# Altium schematic symbol library connector.SchLib: 103 symbols
Pins are listed as number, name and electrical type; pins without a type are passive.

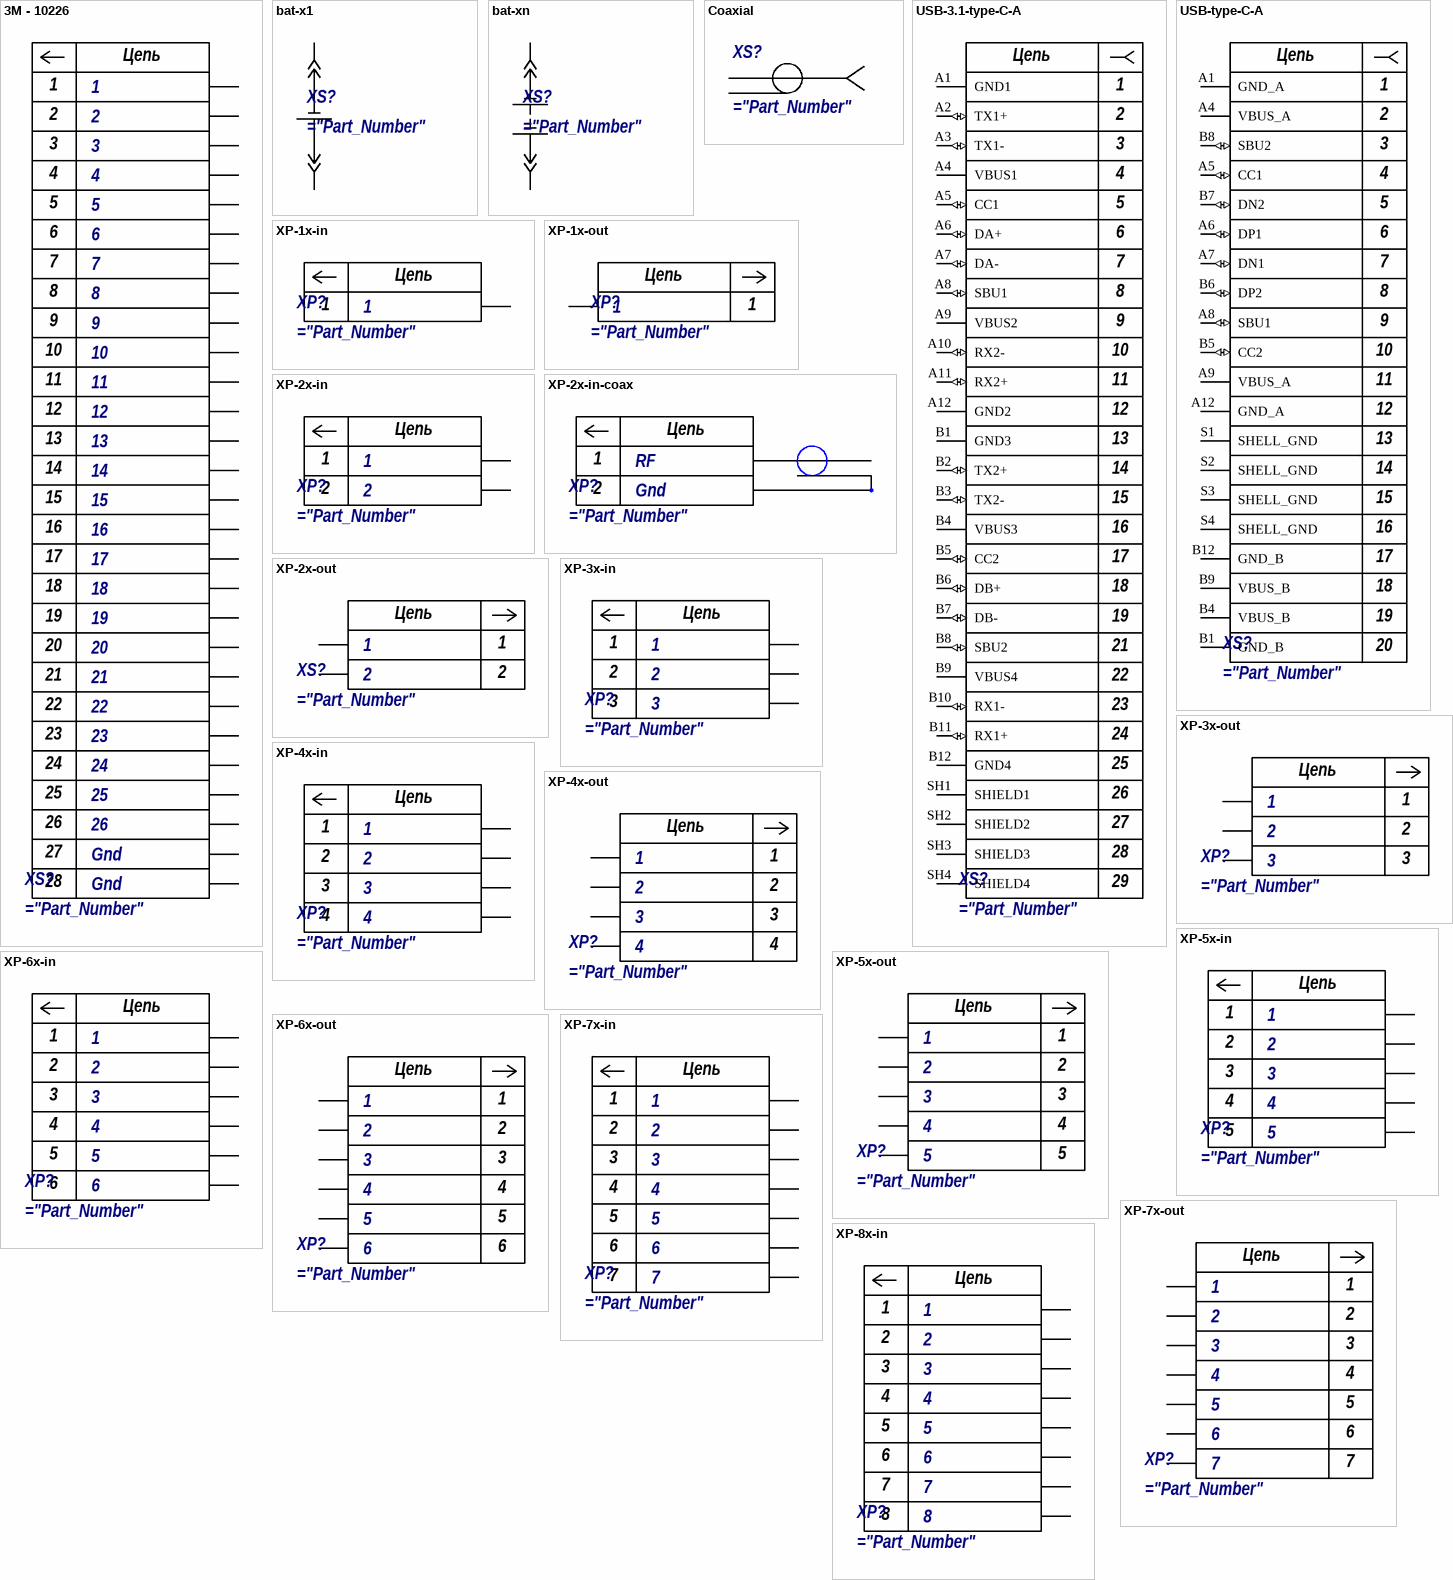
[diagram p0: symbols 3M - 10226 to XP-8x-in]

## 3M - 10226
designator XS?
="Description"; Port 1: 1; Port 2: 2; Port 3: 3; Port 4: 4; Port 5: 5; Port 6: 6; Port 7: 7; Port 8: 8; Port 9: 9; Port 10: 10; Port 11: 11; Port 12: 12; Port 13: 13; Port 14: 14; Port 15: 15; Port 16: 16; Port 17: 17; Port 18: 18; Port 19: 19; Port 20: 20; Port 21: 21; Port 22: 22; Port 23: 23; Port 24: 24; Port 25: 25; Port 26: 26; Port 27: Gnd; Port 28: Gnd
signal-integrity model Model Name (Model Description)
pins: 1, 2, 3, 4, 5, 6, 7, 8, 9, 10, 11, 12, 13, 14, 15, 16, 17, 18, 19, 20, 21, 22, 23, 24, 25, 26, MH1, MH2
text: Цепь; 27; 28

## bat-x1
designator XS?
="Description"; Port 1: 1
pins: 1, 2

## bat-xn
designator XS?
="Description"; Port 1: 1
pins: 1, 2

## Coaxial
designator XS?
="Description"; Rule: UNIONINDEX=0|RULEKIND=SMDNeckDown|NETSCOPE=AnyNet|LAYERKIND=SameLayer|NAME=Schematic SMD Neck-Down Constraint|PERCENT=100.000|UNIT=Metric; Rule: UNIONINDEX=0|RULEKIND=PolygonConnect|NETSCOPE=AnyNet|LAYERKIND=SameLayer|NAME=Schematic Polygon Connect Style|CONNECTSTYLE=Direct|RELIEFCONDUCTORWIDTH=10mil|RELIEFENTRIES=4|POLYGONRELIEFANGLE=45 Angle|AIRGAPWIDTH=10mil|UNIT=Metric
pins: 1, 2

## USB-3.1-type-C-A
designator XS?
="Description"
pins: A1 GND1 (power), A2 TX1+ (io), A3 TX1- (io), A4 VBUS1 (power), A5 CC1 (io), A6 DA+ (io), A7 DA- (io), A8 SBU1 (io), A9 VBUS2 (power), A10 RX2- (io), A11 RX2+ (io), A12 GND2 (power), B1 GND3 (power), B2 TX2+ (io), B3 TX2- (io), B4 VBUS3 (power), B5 CC2 (io), B6 DB+ (io), B7 DB- (io), B8 SBU2 (io), B9 VBUS4 (power), B10 RX1- (io), B11 RX1+ (io), B12 GND4 (power), SH1 SHIELD1, SH2 SHIELD2, SH3 SHIELD3, SH4 SHIELD4
text: Цепь; 1; 2; 3; 4; 5; 6; 7; 8; 9; 10; 11; 12; 13; 14; 15; 16; 17; 18; 19; 21; 22; 23; 24; 25; 26; 27; 28; 29

## USB-type-C-A
designator XS?
="Description"
pins: A1 GND_A (power), A4 VBUS_A (power), A5 CC1 (io), A6 DP1 (io), A7 DN1 (io), A8 SBU1 (io), A9 VBUS_A (power), A12 GND_A (power), B1 GND_B (power), B4 VBUS_B (power), B5 CC2 (io), B6 DP2 (io), B7 DN2 (io), B8 SBU2 (io), B9 VBUS_B (power), B12 GND_B (power), S1 SHELL_GND (power), S2 SHELL_GND (power), S3 SHELL_GND (power), S4 SHELL_GND (power)
text: Цепь; 1; 2; 3; 4; 5; 6; 7; 8; 9; 10; 11; 12; 13; 14; 15; 16; 17; 18; 19; 20

## XP-1x-in
designator XP?
="Description"; Port 1: 1
pins: 1
text: Цепь

## XP-1x-out
designator XP?
="Description"; Port 1: 1
pins: 1
text: Цепь

## XP-2x-in
designator XP?
="Description"; Port 1: 1; Port 2: 2
pins: 1, 2
text: Цепь

## XP-2x-in-coax
designator XP?
="Description"; Port 1: RF; Port 2: Gnd
pins: 1 ="Port 1", 2 ="Port 2"
text: Цепь

## XP-2x-out
designator XS?
="Description"; Port 1: 1; Port 2: 2
pins: 1 ="Port 1", 2 ="Port 2"
text: Цепь

## XP-3x-in
designator XP?
="Description"; Port 1: 1; Port 2: 2; Port 3: 3
pins: 1, 2, 3
text: Цепь

## XP-3x-out
designator XP?
="Description"; Port 1: 1; Port 2: 2; Port 3: 3
pins: 1 ="Port 1", 2 ="Port 2", 3 ="Port 3"
text: Цепь

## XP-4x-in
designator XP?
="Description"; Port 1: 1; Port 2: 2; Port 3: 3; Port 4: 4
pins: 1, 2, 3, 4
text: Цепь

## XP-4x-out
designator XP?
="Description"; Port 1: 1; Port 2: 2; Port 3: 3; Port 4: 4
pins: 1 ="Port 1", 2 ="Port 2", 3 ="Port 3", 4 ="Port 4"
text: Цепь

## XP-5x-in
designator XP?
="Description"; Port 1: 1; Port 2: 2; Port 3: 3; Port 4: 4; Port 5: 5
pins: 1, 2, 3, 4, 5
text: Цепь

## XP-5x-out
designator XP?
="Description"; Port 1: 1; Port 2: 2; Port 3: 3; Port 4: 4; Port 5: 5
pins: 1, 2, 3, 4, 5
text: Цепь

## XP-6x-in
designator XP?
="Description"; Port 1: 1; Port 2: 2; Port 3: 3; Port 4: 4; Port 5: 5; Port 6: 6
pins: 1, 2, 3, 4, 5, 6
text: Цепь

## XP-6x-out
designator XP?
="Description"; Port 1: 1; Port 2: 2; Port 3: 3; Port 4: 4; Port 5: 5; Port 6: 6
pins: 1, 2, 3, 4, 5, 6
text: Цепь

## XP-7x-in
designator XP?
="Description"; Port 1: 1; Port 2: 2; Port 3: 3; Port 4: 4; Port 5: 5; Port 6: 6; Port 7: 7
pins: 1, 2, 3, 4, 5, 6, 7
text: Цепь

## XP-7x-out
designator XP?
="Description"; Port 1: 1; Port 2: 2; Port 3: 3; Port 4: 4; Port 5: 5; Port 6: 6; Port 7: 7
pins: 1, 2, 3, 4, 5, 6, 7
text: Цепь

## XP-8x-in
designator XP?
="Description"; Port 1: 1; Port 2: 2; Port 3: 3; Port 4: 4; Port 5: 5; Port 6: 6; Port 7: 7; Port 8: 8
pins: 1, 2, 3, 4, 5, 6, 7, 8
text: Цепь

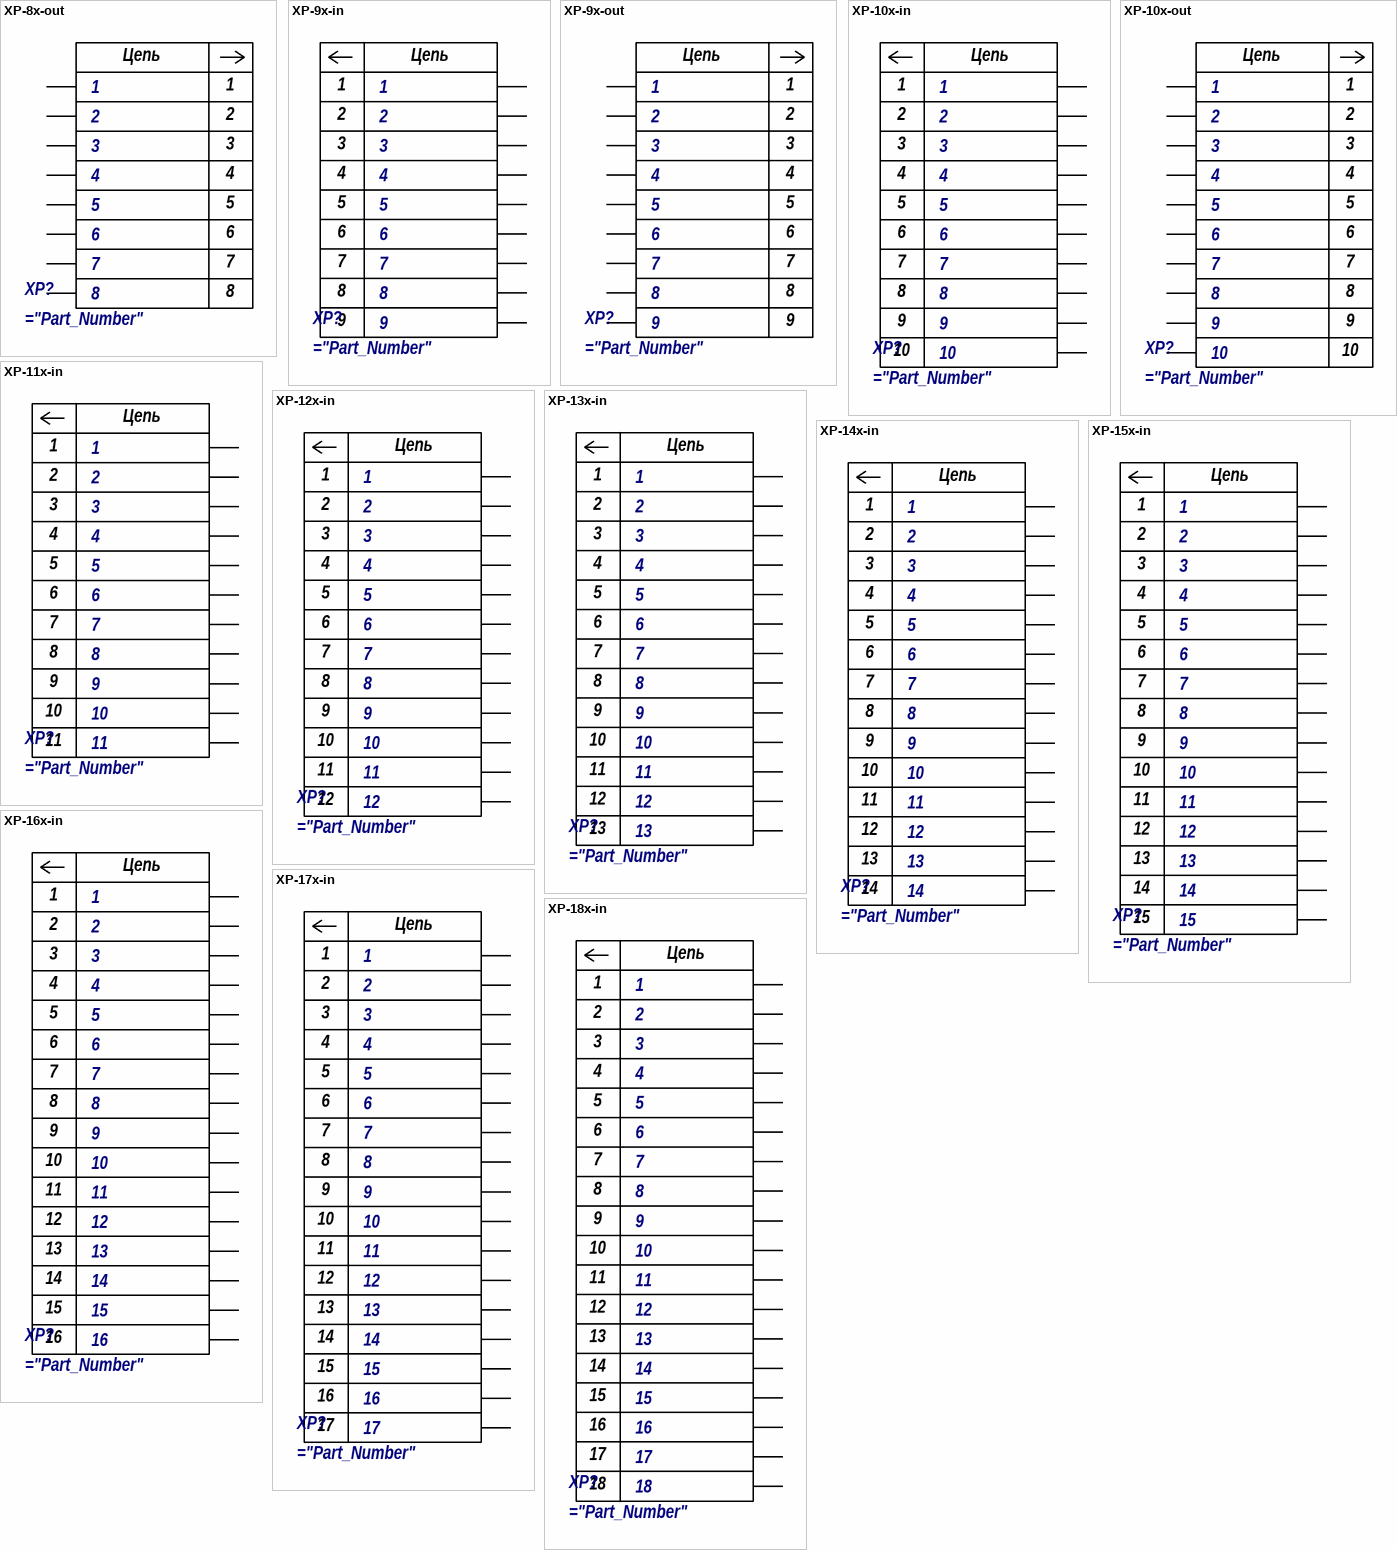
[diagram p1: symbols XP-8x-out to XP-18x-in]

## XP-8x-out
designator XP?
="Description"; Port 1: 1; Port 2: 2; Port 3: 3; Port 4: 4; Port 5: 5; Port 6: 6; Port 7: 7; Port 8: 8
pins: 1, 2, 3, 4, 5, 6, 7, 8
text: Цепь

## XP-9x-in
designator XP?
="Description"; Port 1: 1; Port 2: 2; Port 3: 3; Port 4: 4; Port 5: 5; Port 6: 6; Port 7: 7; Port 8: 8; Port 9: 9
pins: 1, 2, 3, 4, 5, 6, 7, 8, 9
text: Цепь

## XP-9x-out
designator XP?
="Description"; Port 1: 1; Port 2: 2; Port 3: 3; Port 4: 4; Port 5: 5; Port 6: 6; Port 7: 7; Port 8: 8; Port 9: 9
pins: 1, 2, 3, 4, 5, 6, 7, 8, 9
text: Цепь

## XP-10x-in
designator XP?
="Description"; Port 1: 1; Port 2: 2; Port 3: 3; Port 4: 4; Port 5: 5; Port 6: 6; Port 7: 7; Port 8: 8; Port 9: 9; Port 10: 10
pins: 1, 2, 3, 4, 5, 6, 7, 8, 9, 10
text: Цепь

## XP-10x-out
designator XP?
="Description"; Port 1: 1; Port 2: 2; Port 3: 3; Port 4: 4; Port 5: 5; Port 6: 6; Port 7: 7; Port 8: 8; Port 9: 9; Port 10: 10
pins: 1, 2, 3, 4, 5, 6, 7, 8, 9, 10
text: Цепь

## XP-11x-in
designator XP?
="Description"; Port 1: 1; Port 2: 2; Port 3: 3; Port 4: 4; Port 5: 5; Port 6: 6; Port 7: 7; Port 8: 8; Port 9: 9; Port 10: 10; Port 11: 11
pins: 1, 2, 3, 4, 5, 6, 7, 8, 9, 10, 11
text: Цепь

## XP-12x-in
designator XP?
="Description"; Port 1: 1; Port 2: 2; Port 3: 3; Port 4: 4; Port 5: 5; Port 6: 6; Port 7: 7; Port 8: 8; Port 9: 9; Port 10: 10; Port 11: 11; Port 12: 12
pins: 1, 2, 3, 4, 5, 6, 7, 8, 9, 10, 11, 12
text: Цепь

## XP-13x-in
designator XP?
="Description"; Port 1: 1; Port 2: 2; Port 3: 3; Port 4: 4; Port 5: 5; Port 6: 6; Port 7: 7; Port 8: 8; Port 9: 9; Port 10: 10; Port 11: 11; Port 12: 12; Port 13: 13
pins: 1, 2, 3, 4, 5, 6, 7, 8, 9, 10, 11, 12, 13
text: Цепь

## XP-14x-in
designator XP?
="Description"; Port 1: 1; Port 2: 2; Port 3: 3; Port 4: 4; Port 5: 5; Port 6: 6; Port 7: 7; Port 8: 8; Port 9: 9; Port 10: 10; Port 11: 11; Port 12: 12; Port 13: 13; Port 14: 14
pins: 1, 2, 3, 4, 5, 6, 7, 8, 9, 10, 11, 12, 13, 14
text: Цепь

## XP-15x-in
designator XP?
="Description"; Port 1: 1; Port 2: 2; Port 3: 3; Port 4: 4; Port 5: 5; Port 6: 6; Port 7: 7; Port 8: 8; Port 9: 9; Port 10: 10; Port 11: 11; Port 12: 12; Port 13: 13; Port 14: 14; Port 15: 15
pins: 1, 2, 3, 4, 5, 6, 7, 8, 9, 10, 11, 12, 13, 14, 15
text: Цепь

## XP-16x-in
designator XP?
="Description"; Port 1: 1; Port 2: 2; Port 3: 3; Port 4: 4; Port 5: 5; Port 6: 6; Port 7: 7; Port 8: 8; Port 9: 9; Port 10: 10; Port 11: 11; Port 12: 12; Port 13: 13; Port 14: 14; Port 15: 15; Port 16: 16
pins: 1, 2, 3, 4, 5, 6, 7, 8, 9, 10, 11, 12, 13, 14, 15, 16
text: Цепь

## XP-17x-in
designator XP?
="Description"; Port 1: 1; Port 2: 2; Port 3: 3; Port 4: 4; Port 5: 5; Port 6: 6; Port 7: 7; Port 8: 8; Port 9: 9; Port 10: 10; Port 11: 11; Port 12: 12; Port 13: 13; Port 14: 14; Port 15: 15; Port 16: 16; Port 17: 17
pins: 1, 2, 3, 4, 5, 6, 7, 8, 9, 10, 11, 12, 13, 14, 15, 16, 17
text: Цепь

## XP-18x-in
designator XP?
="Description"; Port 1: 1; Port 2: 2; Port 3: 3; Port 4: 4; Port 5: 5; Port 6: 6; Port 7: 7; Port 8: 8; Port 9: 9; Port 10: 10; Port 11: 11; Port 12: 12; Port 13: 13; Port 14: 14; Port 15: 15; Port 16: 16; Port 17: 17; Port 18: 18
pins: 1, 2, 3, 4, 5, 6, 7, 8, 9, 10, 11, 12, 13, 14, 15, 16, 17, 18
text: Цепь

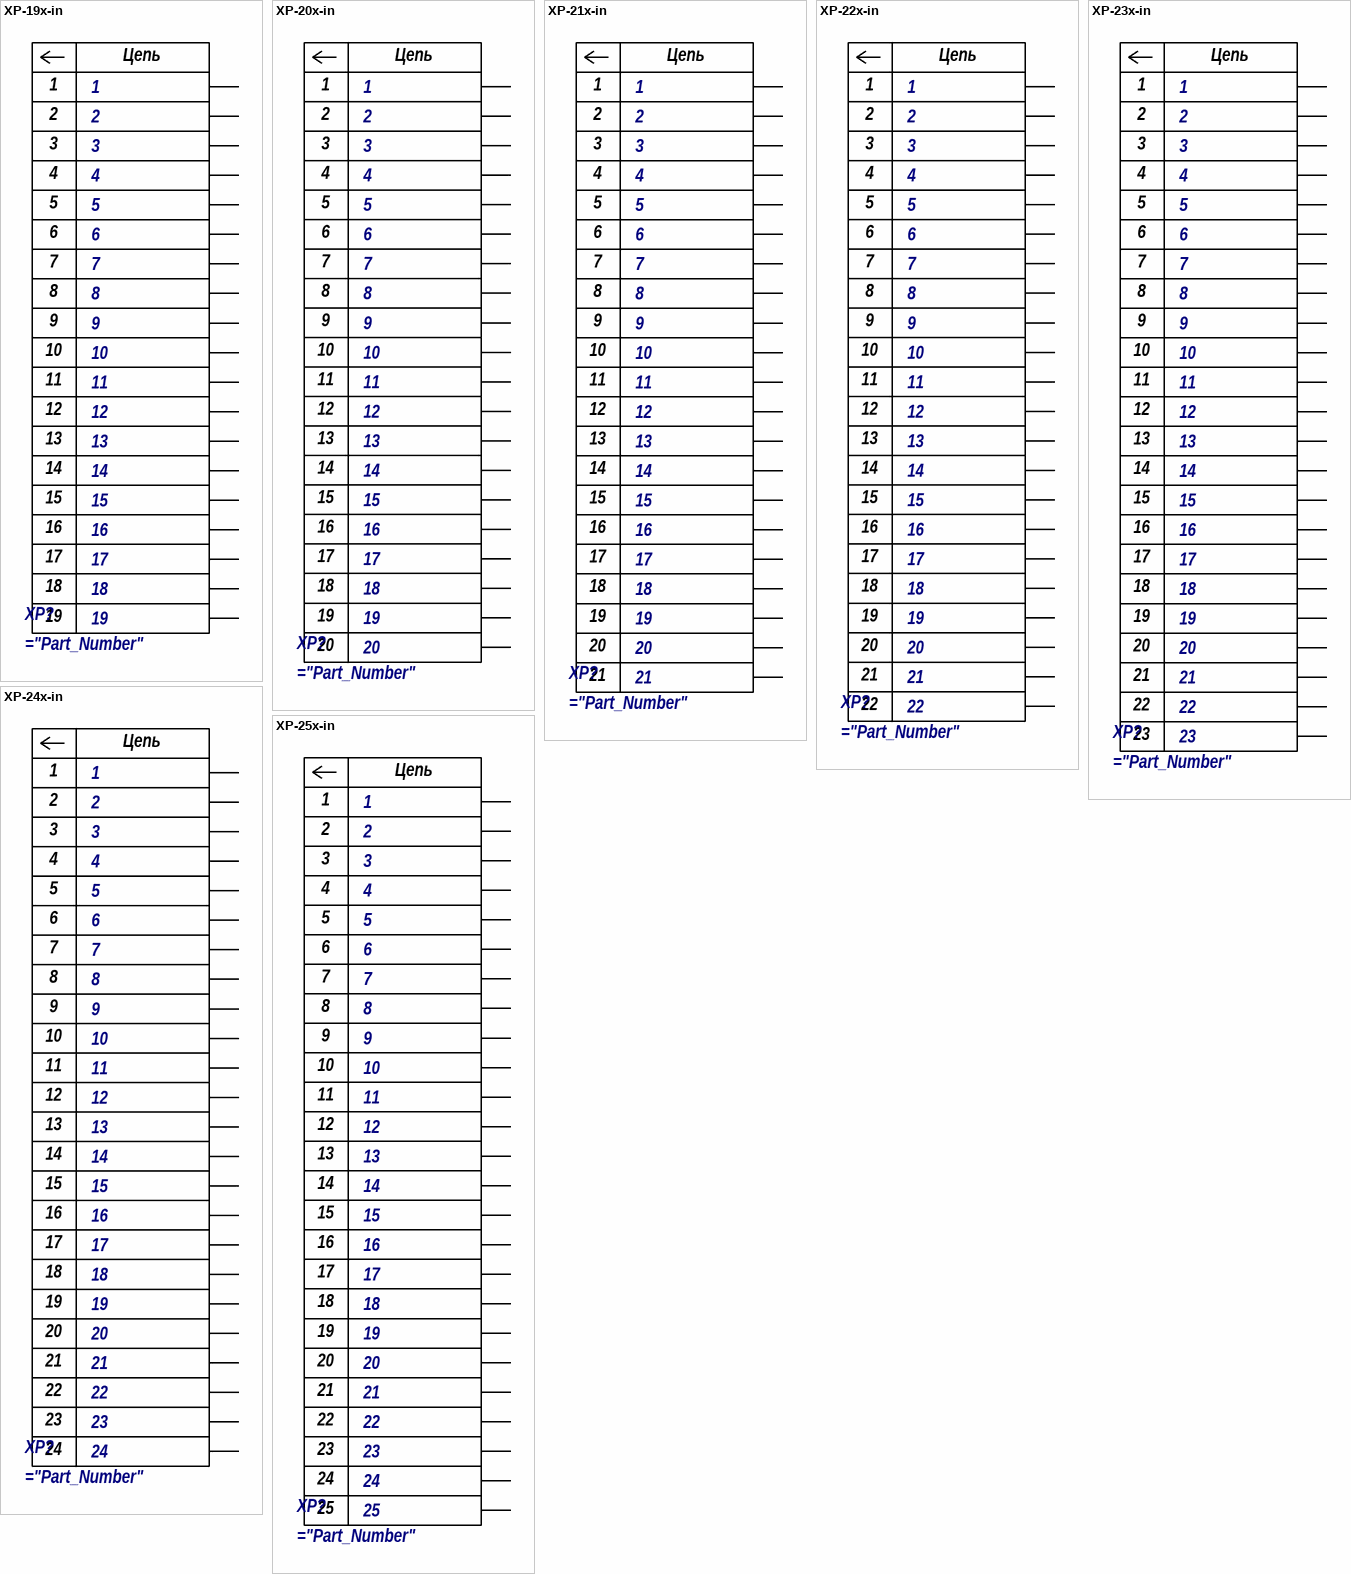
[diagram p2: symbols XP-19x-in to XP-25x-in]

## XP-19x-in
designator XP?
="Description"; Port 1: 1; Port 2: 2; Port 3: 3; Port 4: 4; Port 5: 5; Port 6: 6; Port 7: 7; Port 8: 8; Port 9: 9; Port 10: 10; Port 11: 11; Port 12: 12; Port 13: 13; Port 14: 14; Port 15: 15; Port 16: 16; Port 17: 17; Port 18: 18; Port 19: 19
pins: 1, 2, 3, 4, 5, 6, 7, 8, 9, 10, 11, 12, 13, 14, 15, 16, 17, 18, 19
text: Цепь

## XP-20x-in
designator XP?
="Description"; Port 1: 1; Port 2: 2; Port 3: 3; Port 4: 4; Port 5: 5; Port 6: 6; Port 7: 7; Port 8: 8; Port 9: 9; Port 10: 10; Port 11: 11; Port 12: 12; Port 13: 13; Port 14: 14; Port 15: 15; Port 16: 16; Port 17: 17; Port 18: 18; Port 19: 19; Port 20: 20
pins: 1, 2, 3, 4, 5, 6, 7, 8, 9, 10, 11, 12, 13, 14, 15, 16, 17, 18, 19, 20
text: Цепь

## XP-21x-in
designator XP?
="Description"; Port 1: 1; Port 2: 2; Port 3: 3; Port 4: 4; Port 5: 5; Port 6: 6; Port 7: 7; Port 8: 8; Port 9: 9; Port 10: 10; Port 11: 11; Port 12: 12; Port 13: 13; Port 14: 14; Port 15: 15; Port 16: 16; Port 17: 17; Port 18: 18; Port 19: 19; Port 20: 20; Port 21: 21
pins: 1, 2, 3, 4, 5, 6, 7, 8, 9, 10, 11, 12, 13, 14, 15, 16, 17, 18, 19, 20, 21
text: Цепь

## XP-22x-in
designator XP?
="Description"; Port 1: 1; Port 2: 2; Port 3: 3; Port 4: 4; Port 5: 5; Port 6: 6; Port 7: 7; Port 8: 8; Port 9: 9; Port 10: 10; Port 11: 11; Port 12: 12; Port 13: 13; Port 14: 14; Port 15: 15; Port 16: 16; Port 17: 17; Port 18: 18; Port 19: 19; Port 20: 20; Port 21: 21; Port 22: 22
pins: 1, 2, 3, 4, 5, 6, 7, 8, 9, 10, 11, 12, 13, 14, 15, 16, 17, 18, 19, 20, 21, 22
text: Цепь

## XP-23x-in
designator XP?
="Description"; Port 1: 1; Port 2: 2; Port 3: 3; Port 4: 4; Port 5: 5; Port 6: 6; Port 7: 7; Port 8: 8; Port 9: 9; Port 10: 10; Port 11: 11; Port 12: 12; Port 13: 13; Port 14: 14; Port 15: 15; Port 16: 16; Port 17: 17; Port 18: 18; Port 19: 19; Port 20: 20; Port 21: 21; Port 22: 22; Port 23: 23
pins: 1, 2, 3, 4, 5, 6, 7, 8, 9, 10, 11, 12, 13, 14, 15, 16, 17, 18, 19, 20, 21, 22, 23
text: Цепь

## XP-24x-in
designator XP?
="Description"; Port 1: 1; Port 2: 2; Port 3: 3; Port 4: 4; Port 5: 5; Port 6: 6; Port 7: 7; Port 8: 8; Port 9: 9; Port 10: 10; Port 11: 11; Port 12: 12; Port 13: 13; Port 14: 14; Port 15: 15; Port 16: 16; Port 17: 17; Port 18: 18; Port 19: 19; Port 20: 20; Port 21: 21; Port 22: 22; Port 23: 23; Port 24: 24
pins: 1, 2, 3, 4, 5, 6, 7, 8, 9, 10, 11, 12, 13, 14, 15, 16, 17, 18, 19, 20, 21, 22, 23, 24
text: Цепь

## XP-25x-in
designator XP?
="Description"; Port 1: 1; Port 2: 2; Port 3: 3; Port 4: 4; Port 5: 5; Port 6: 6; Port 7: 7; Port 8: 8; Port 9: 9; Port 10: 10; Port 11: 11; Port 12: 12; Port 13: 13; Port 14: 14; Port 15: 15; Port 16: 16; Port 17: 17; Port 18: 18; Port 19: 19; Port 20: 20; Port 21: 21; Port 22: 22; Port 23: 23; Port 24: 24; Port 25: 25
pins: 1, 2, 3, 4, 5, 6, 7, 8, 9, 10, 11, 12, 13, 14, 15, 16, 17, 18, 19, 20, 21, 22, 23, 24, 25
text: Цепь

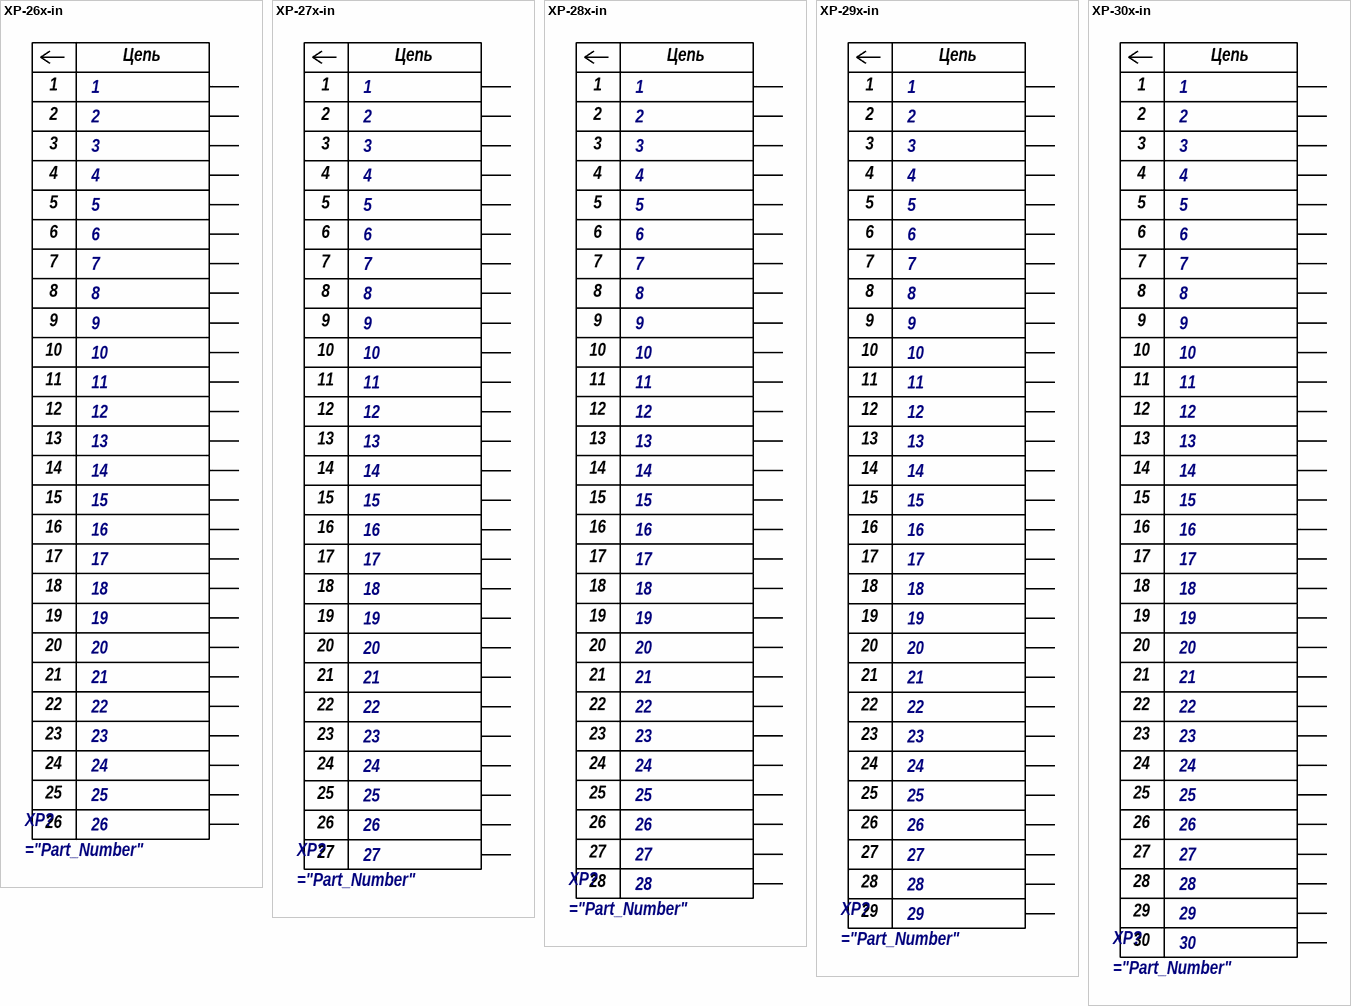
[diagram p3: symbols XP-26x-in to XP-30x-in]

## XP-26x-in
designator XP?
="Description"; Port 1: 1; Port 2: 2; Port 3: 3; Port 4: 4; Port 5: 5; Port 6: 6; Port 7: 7; Port 8: 8; Port 9: 9; Port 10: 10; Port 11: 11; Port 12: 12; Port 13: 13; Port 14: 14; Port 15: 15; Port 16: 16; Port 17: 17; Port 18: 18; Port 19: 19; Port 20: 20; Port 21: 21; Port 22: 22; Port 23: 23; Port 24: 24; Port 25: 25; Port 26: 26
pins: 1, 2, 3, 4, 5, 6, 7, 8, 9, 10, 11, 12, 13, 14, 15, 16, 17, 18, 19, 20, 21, 22, 23, 24, 25, 26
text: Цепь

## XP-27x-in
designator XP?
="Description"; Port 1: 1; Port 2: 2; Port 3: 3; Port 4: 4; Port 5: 5; Port 6: 6; Port 7: 7; Port 8: 8; Port 9: 9; Port 10: 10; Port 11: 11; Port 12: 12; Port 13: 13; Port 14: 14; Port 15: 15; Port 16: 16; Port 17: 17; Port 18: 18; Port 19: 19; Port 20: 20; Port 21: 21; Port 22: 22; Port 23: 23; Port 24: 24; Port 25: 25; Port 26: 26; Port 27: 27
pins: 1, 2, 3, 4, 5, 6, 7, 8, 9, 10, 11, 12, 13, 14, 15, 16, 17, 18, 19, 20, 21, 22, 23, 24, 25, 26, 27
text: Цепь

## XP-28x-in
designator XP?
="Description"; Port 1: 1; Port 2: 2; Port 3: 3; Port 4: 4; Port 5: 5; Port 6: 6; Port 7: 7; Port 8: 8; Port 9: 9; Port 10: 10; Port 11: 11; Port 12: 12; Port 13: 13; Port 14: 14; Port 15: 15; Port 16: 16; Port 17: 17; Port 18: 18; Port 19: 19; Port 20: 20; Port 21: 21; Port 22: 22; Port 23: 23; Port 24: 24; Port 25: 25; Port 26: 26; Port 27: 27; Port 28: 28
pins: 1, 2, 3, 4, 5, 6, 7, 8, 9, 10, 11, 12, 13, 14, 15, 16, 17, 18, 19, 20, 21, 22, 23, 24, 25, 26, 27, 28
text: Цепь

## XP-29x-in
designator XP?
="Description"; Port 1: 1; Port 2: 2; Port 3: 3; Port 4: 4; Port 5: 5; Port 6: 6; Port 7: 7; Port 8: 8; Port 9: 9; Port 10: 10; Port 11: 11; Port 12: 12; Port 13: 13; Port 14: 14; Port 15: 15; Port 16: 16; Port 17: 17; Port 18: 18; Port 19: 19; Port 20: 20; Port 21: 21; Port 22: 22; Port 23: 23; Port 24: 24; Port 25: 25; Port 26: 26; Port 27: 27; Port 28: 28; Port 29: 29
pins: 1, 2, 3, 4, 5, 6, 7, 8, 9, 10, 11, 12, 13, 14, 15, 16, 17, 18, 19, 20, 21, 22, 23, 24, 25, 26, 27, 28, 29
text: Цепь

## XP-30x-in
designator XP?
="Description"; Port 1: 1; Port 2: 2; Port 3: 3; Port 4: 4; Port 5: 5; Port 6: 6; Port 7: 7; Port 8: 8; Port 9: 9; Port 10: 10; Port 11: 11; Port 12: 12; Port 13: 13; Port 14: 14; Port 15: 15; Port 16: 16; Port 17: 17; Port 18: 18; Port 19: 19; Port 20: 20; Port 21: 21; Port 22: 22; Port 23: 23; Port 24: 24; Port 25: 25; Port 26: 26; Port 27: 27; Port 28: 28; Port 29: 29; Port 30: 30
pins: 1, 2, 3, 4, 5, 6, 7, 8, 9, 10, 11, 12, 13, 14, 15, 16, 17, 18, 19, 20, 21, 22, 23, 24, 25, 26, 27, 28, 29, 30
text: Цепь

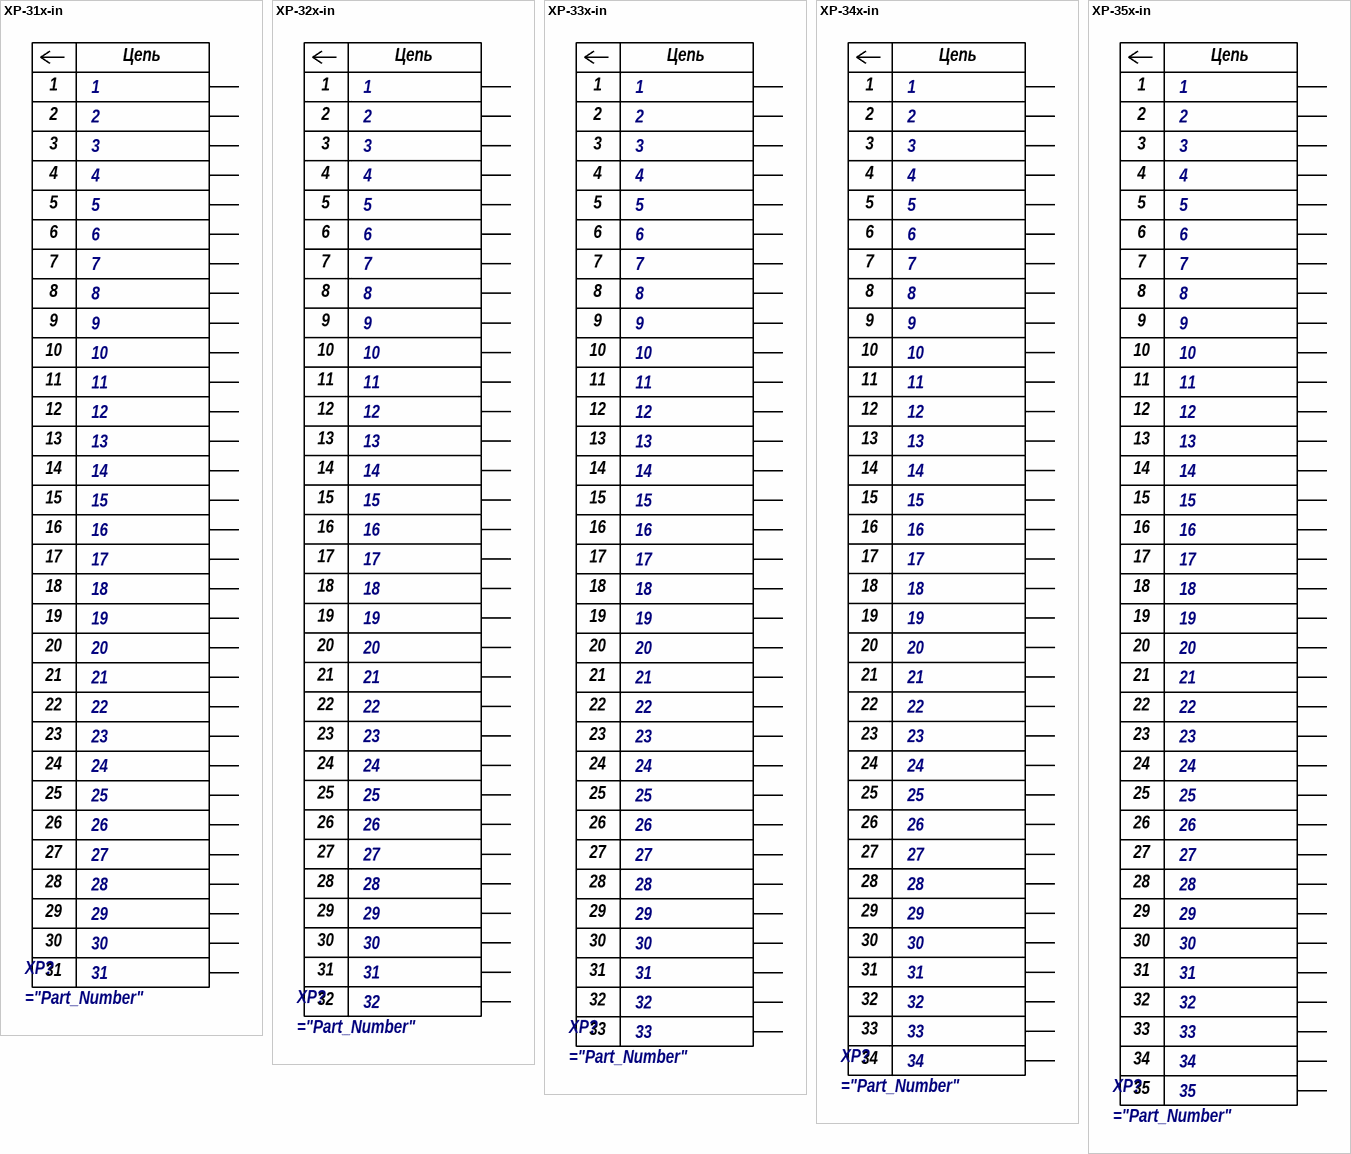
[diagram p4: symbols XP-31x-in to XP-35x-in]

## XP-31x-in
designator XP?
="Description"; Port 1: 1; Port 2: 2; Port 3: 3; Port 4: 4; Port 5: 5; Port 6: 6; Port 7: 7; Port 8: 8; Port 9: 9; Port 10: 10; Port 11: 11; Port 12: 12; Port 13: 13; Port 14: 14; Port 15: 15; Port 16: 16; Port 17: 17; Port 18: 18; Port 19: 19; Port 20: 20; Port 21: 21; Port 22: 22; Port 23: 23; Port 24: 24; Port 25: 25; Port 26: 26; Port 27: 27; Port 28: 28; Port 29: 29; Port 30: 30; Port 31: 31
pins: 1, 2, 3, 4, 5, 6, 7, 8, 9, 10, 11, 12, 13, 14, 15, 16, 17, 18, 19, 20, 21, 22, 23, 24, 25, 26, 27, 28, 29, 30, 31
text: Цепь

## XP-32x-in
designator XP?
="Description"; Port 1: 1; Port 2: 2; Port 3: 3; Port 4: 4; Port 5: 5; Port 6: 6; Port 7: 7; Port 8: 8; Port 9: 9; Port 10: 10; Port 11: 11; Port 12: 12; Port 13: 13; Port 14: 14; Port 15: 15; Port 16: 16; Port 17: 17; Port 18: 18; Port 19: 19; Port 20: 20; Port 21: 21; Port 22: 22; Port 23: 23; Port 24: 24; Port 25: 25; Port 26: 26; Port 27: 27; Port 28: 28; Port 29: 29; Port 30: 30; Port 31: 31; Port 32: 32
pins: 1, 2, 3, 4, 5, 6, 7, 8, 9, 10, 11, 12, 13, 14, 15, 16, 17, 18, 19, 20, 21, 22, 23, 24, 25, 26, 27, 28, 29, 30, 31, 32
text: Цепь

## XP-33x-in
designator XP?
="Description"; Port 1: 1; Port 2: 2; Port 3: 3; Port 4: 4; Port 5: 5; Port 6: 6; Port 7: 7; Port 8: 8; Port 9: 9; Port 10: 10; Port 11: 11; Port 12: 12; Port 13: 13; Port 14: 14; Port 15: 15; Port 16: 16; Port 17: 17; Port 18: 18; Port 19: 19; Port 20: 20; Port 21: 21; Port 22: 22; Port 23: 23; Port 24: 24; Port 25: 25; Port 26: 26; Port 27: 27; Port 28: 28; Port 29: 29; Port 30: 30; Port 31: 31; Port 32: 32; Port 33: 33
pins: 1, 2, 3, 4, 5, 6, 7, 8, 9, 10, 11, 12, 13, 14, 15, 16, 17, 18, 19, 20, 21, 22, 23, 24, 25, 26, 27, 28, 29, 30, 31, 32, 33
text: Цепь

## XP-34x-in
designator XP?
="Description"; Port 1: 1; Port 2: 2; Port 3: 3; Port 4: 4; Port 5: 5; Port 6: 6; Port 7: 7; Port 8: 8; Port 9: 9; Port 10: 10; Port 11: 11; Port 12: 12; Port 13: 13; Port 14: 14; Port 15: 15; Port 16: 16; Port 17: 17; Port 18: 18; Port 19: 19; Port 20: 20; Port 21: 21; Port 22: 22; Port 23: 23; Port 24: 24; Port 25: 25; Port 26: 26; Port 27: 27; Port 28: 28; Port 29: 29; Port 30: 30; Port 31: 31; Port 32: 32; Port 33: 33; Port 34: 34
pins: 1, 2, 3, 4, 5, 6, 7, 8, 9, 10, 11, 12, 13, 14, 15, 16, 17, 18, 19, 20, 21, 22, 23, 24, 25, 26, 27, 28, 29, 30, 31, 32, 33, 34
text: Цепь

## XP-35x-in
designator XP?
="Description"; Port 1: 1; Port 2: 2; Port 3: 3; Port 4: 4; Port 5: 5; Port 6: 6; Port 7: 7; Port 8: 8; Port 9: 9; Port 10: 10; Port 11: 11; Port 12: 12; Port 13: 13; Port 14: 14; Port 15: 15; Port 16: 16; Port 17: 17; Port 18: 18; Port 19: 19; Port 20: 20; Port 21: 21; Port 22: 22; Port 23: 23; Port 24: 24; Port 25: 25; Port 26: 26; Port 27: 27; Port 28: 28; Port 29: 29; Port 30: 30; Port 31: 31; Port 32: 32; Port 33: 33; Port 34: 34; Port 35: 35
pins: 1, 2, 3, 4, 5, 6, 7, 8, 9, 10, 11, 12, 13, 14, 15, 16, 17, 18, 19, 20, 21, 22, 23, 24, 25, 26, 27, 28, 29, 30, 31, 32, 33, 34, 35
text: Цепь

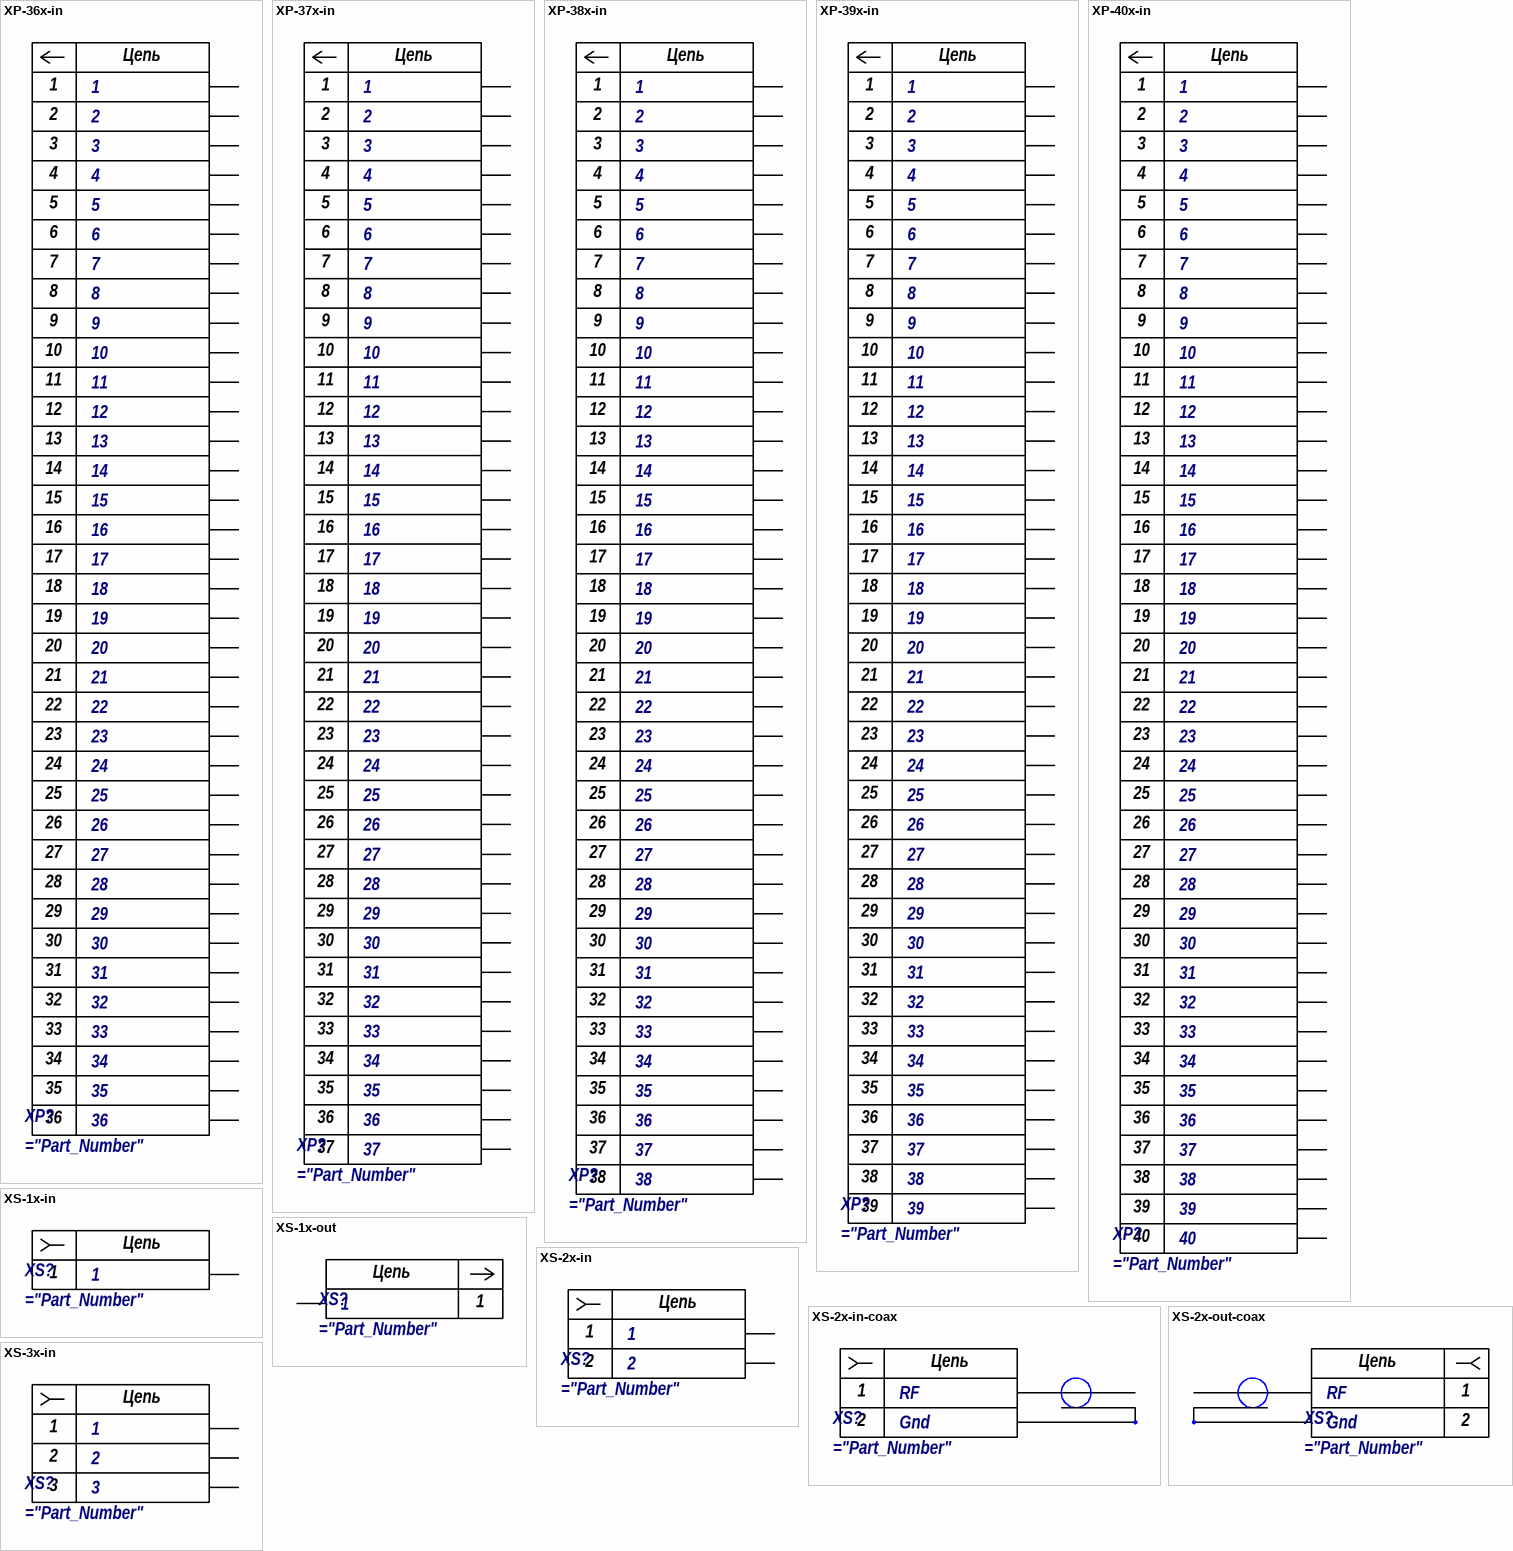
[diagram p5: symbols XP-36x-in to XS-3x-in]

## XP-36x-in
designator XP?
="Description"; Port 1: 1; Port 2: 2; Port 3: 3; Port 4: 4; Port 5: 5; Port 6: 6; Port 7: 7; Port 8: 8; Port 9: 9; Port 10: 10; Port 11: 11; Port 12: 12; Port 13: 13; Port 14: 14; Port 15: 15; Port 16: 16; Port 17: 17; Port 18: 18; Port 19: 19; Port 20: 20; Port 21: 21; Port 22: 22; Port 23: 23; Port 24: 24; Port 25: 25; Port 26: 26; Port 27: 27; Port 28: 28; Port 29: 29; Port 30: 30; Port 31: 31; Port 32: 32; Port 33: 33; Port 34: 34; Port 35: 35; Port 36: 36
pins: 1, 2, 3, 4, 5, 6, 7, 8, 9, 10, 11, 12, 13, 14, 15, 16, 17, 18, 19, 20, 21, 22, 23, 24, 25, 26, 27, 28, 29, 30, 31, 32, 33, 34, 35, 36
text: Цепь

## XP-37x-in
designator XP?
="Description"; Port 1: 1; Port 2: 2; Port 3: 3; Port 4: 4; Port 5: 5; Port 6: 6; Port 7: 7; Port 8: 8; Port 9: 9; Port 10: 10; Port 11: 11; Port 12: 12; Port 13: 13; Port 14: 14; Port 15: 15; Port 16: 16; Port 17: 17; Port 18: 18; Port 19: 19; Port 20: 20; Port 21: 21; Port 22: 22; Port 23: 23; Port 24: 24; Port 25: 25; Port 26: 26; Port 27: 27; Port 28: 28; Port 29: 29; Port 30: 30; Port 31: 31; Port 32: 32; Port 33: 33; Port 34: 34; Port 35: 35; Port 36: 36; Port 37: 37
pins: 1, 2, 3, 4, 5, 6, 7, 8, 9, 10, 11, 12, 13, 14, 15, 16, 17, 18, 19, 20, 21, 22, 23, 24, 25, 26, 27, 28, 29, 30, 31, 32, 33, 34, 35, 36, 37
text: Цепь

## XP-38x-in
designator XP?
="Description"; Port 1: 1; Port 2: 2; Port 3: 3; Port 4: 4; Port 5: 5; Port 6: 6; Port 7: 7; Port 8: 8; Port 9: 9; Port 10: 10; Port 11: 11; Port 12: 12; Port 13: 13; Port 14: 14; Port 15: 15; Port 16: 16; Port 17: 17; Port 18: 18; Port 19: 19; Port 20: 20; Port 21: 21; Port 22: 22; Port 23: 23; Port 24: 24; Port 25: 25; Port 26: 26; Port 27: 27; Port 28: 28; Port 29: 29; Port 30: 30; Port 31: 31; Port 32: 32; Port 33: 33; Port 34: 34; Port 35: 35; Port 36: 36; Port 37: 37; Port 38: 38
pins: 1, 2, 3, 4, 5, 6, 7, 8, 9, 10, 11, 12, 13, 14, 15, 16, 17, 18, 19, 20, 21, 22, 23, 24, 25, 26, 27, 28, 29, 30, 31, 32, 33, 34, 35, 36, 37, 38
text: Цепь

## XP-39x-in
designator XP?
="Description"; Port 1: 1; Port 2: 2; Port 3: 3; Port 4: 4; Port 5: 5; Port 6: 6; Port 7: 7; Port 8: 8; Port 9: 9; Port 10: 10; Port 11: 11; Port 12: 12; Port 13: 13; Port 14: 14; Port 15: 15; Port 16: 16; Port 17: 17; Port 18: 18; Port 19: 19; Port 20: 20; Port 21: 21; Port 22: 22; Port 23: 23; Port 24: 24; Port 25: 25; Port 26: 26; Port 27: 27; Port 28: 28; Port 29: 29; Port 30: 30; Port 31: 31; Port 32: 32; Port 33: 33; Port 34: 34; Port 35: 35; Port 36: 36; Port 37: 37; Port 38: 38; Port 39: 39
pins: 1, 2, 3, 4, 5, 6, 7, 8, 9, 10, 11, 12, 13, 14, 15, 16, 17, 18, 19, 20, 21, 22, 23, 24, 25, 26, 27, 28, 29, 30, 31, 32, 33, 34, 35, 36, 37, 38, 39
text: Цепь

## XP-40x-in
designator XP?
="Description"; Port 1: 1; Port 2: 2; Port 3: 3; Port 4: 4; Port 5: 5; Port 6: 6; Port 7: 7; Port 8: 8; Port 9: 9; Port 10: 10; Port 11: 11; Port 12: 12; Port 13: 13; Port 14: 14; Port 15: 15; Port 16: 16; Port 17: 17; Port 18: 18; Port 19: 19; Port 20: 20; Port 21: 21; Port 22: 22; Port 23: 23; Port 24: 24; Port 25: 25; Port 26: 26; Port 27: 27; Port 28: 28; Port 29: 29; Port 30: 30; Port 31: 31; Port 32: 32; Port 33: 33; Port 34: 34; Port 35: 35; Port 36: 36; Port 37: 37; Port 38: 38; Port 39: 39; Port 40: 40
pins: 1, 2, 3, 4, 5, 6, 7, 8, 9, 10, 11, 12, 13, 14, 15, 16, 17, 18, 19, 20, 21, 22, 23, 24, 25, 26, 27, 28, 29, 30, 31, 32, 33, 34, 35, 36, 37, 38, 39, 40
text: Цепь

## XS-1x-in
designator XS?
="Description"; Port 1: 1
pins: 1 ="Port 1"
text: Цепь

## XS-1x-out
designator XS?
="Description"; Port 1: 1
pins: 1
text: Цепь

## XS-2x-in
designator XS?
="Description"; Port 1: 1; Port 2: 2
pins: 1 ="Port 1", 2 ="Port 2"
text: Цепь

## XS-2x-in-coax
designator XS?
="Description"; Port 1: RF; Port 2: Gnd
pins: 1 ="Port 1", 2 ="Port 2"
text: Цепь

## XS-2x-out-coax
designator XS?
="Description"; Port 1: RF; Port 2: Gnd
pins: 1 ="Port 1", 2 ="Port 2"
text: Цепь

## XS-3x-in
designator XS?
="Description"; Port 1: 1; Port 2: 2; Port 3: 3
pins: 1 ="Port 1", 2 ="Port 2", 3 ="Port 3"
text: Цепь

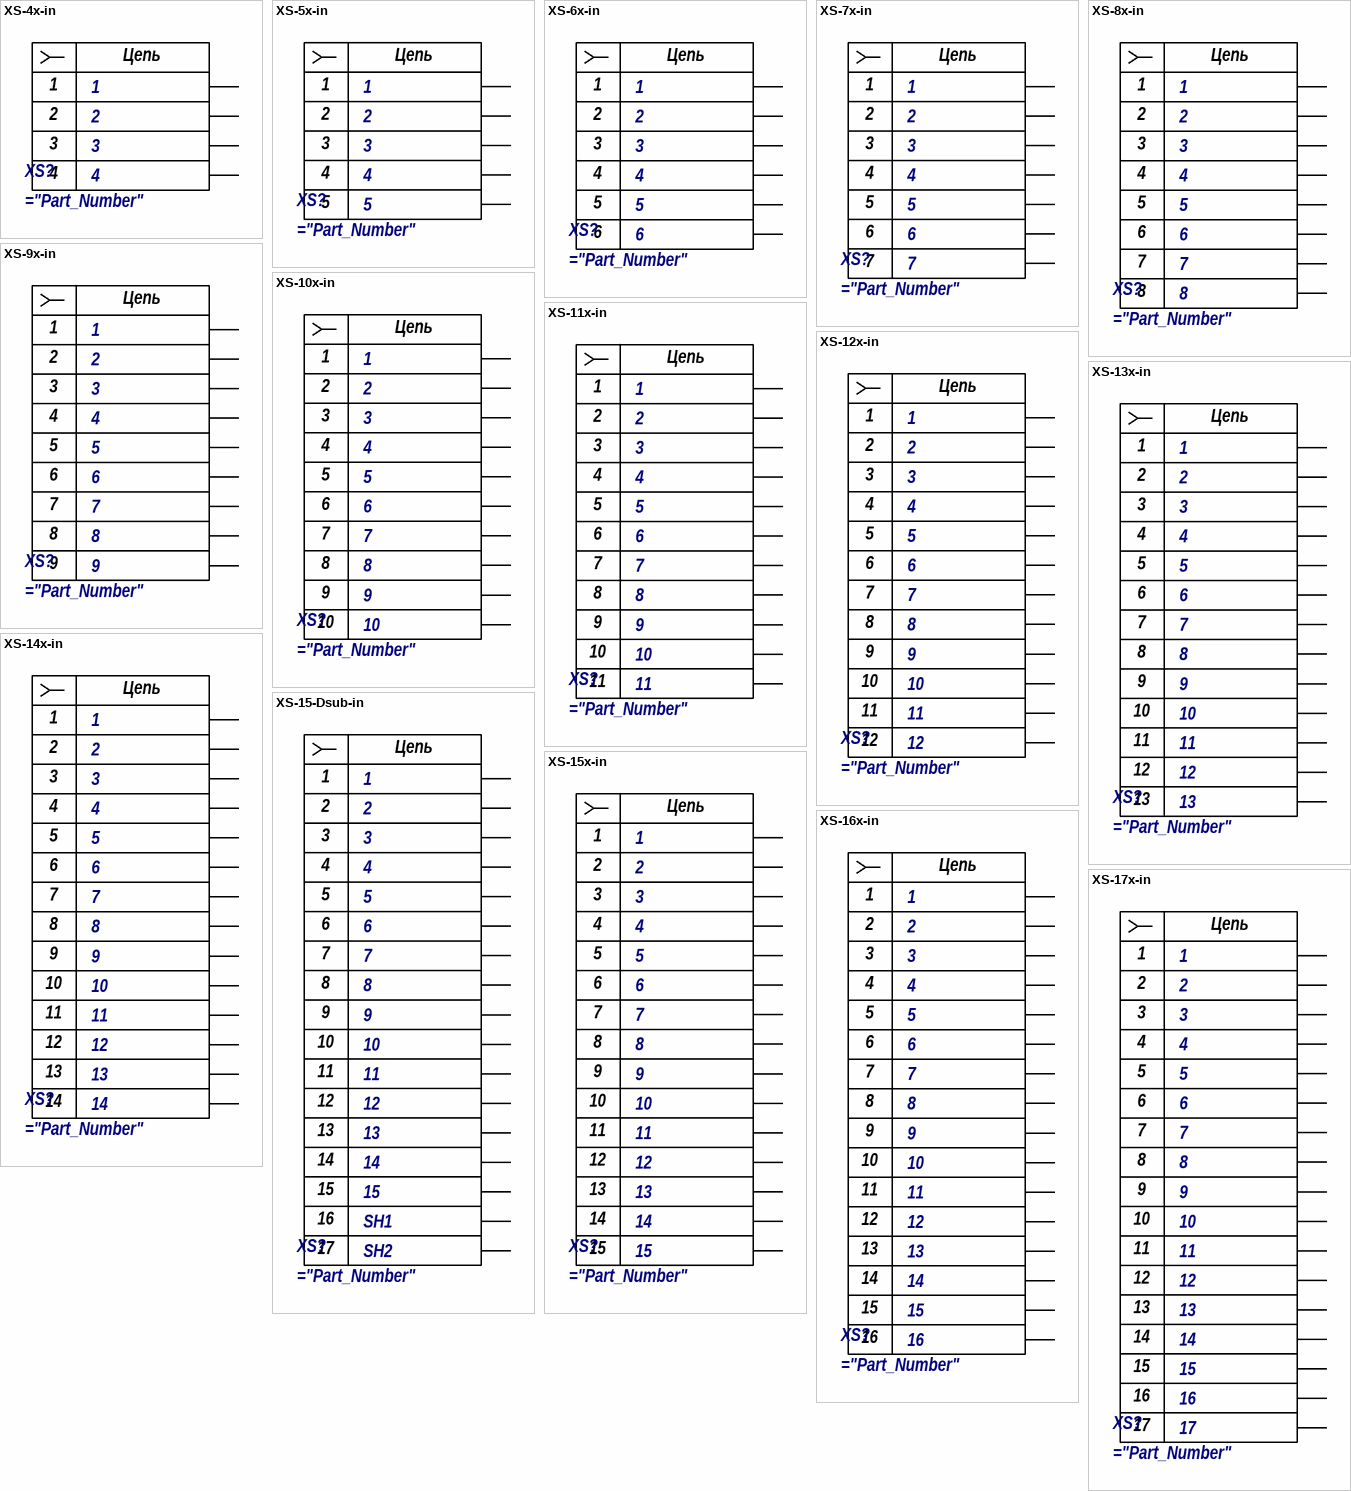
[diagram p6: symbols XS-4x-in to XS-17x-in]

## XS-4x-in
designator XS?
="Description"; Port 1: 1; Port 2: 2; Port 3: 3; Port 4: 4
pins: 1 ="Port 1", 2 ="Port 2", 3 ="Port 3", 4 ="Port 4"
text: Цепь

## XS-5x-in
designator XS?
="Description"; Port 1: 1; Port 2: 2; Port 3: 3; Port 4: 4; Port 5: 5
pins: 1, 2, 3, 4, 5
text: Цепь

## XS-6x-in
designator XS?
="Description"; Port 1: 1; Port 2: 2; Port 3: 3; Port 4: 4; Port 5: 5; Port 6: 6
pins: 1, 2, 3, 4, 5, 6
text: Цепь

## XS-7x-in
designator XS?
="Description"; Port 1: 1; Port 2: 2; Port 3: 3; Port 4: 4; Port 5: 5; Port 6: 6; Port 7: 7
pins: 1, 2, 3, 4, 5, 6, 7
text: Цепь

## XS-8x-in
designator XS?
="Description"; Port 1: 1; Port 2: 2; Port 3: 3; Port 4: 4; Port 5: 5; Port 6: 6; Port 7: 7; Port 8: 8
pins: 1, 2, 3, 4, 5, 6, 7, 8
text: Цепь

## XS-9x-in
designator XS?
="Description"; Port 1: 1; Port 2: 2; Port 3: 3; Port 4: 4; Port 5: 5; Port 6: 6; Port 7: 7; Port 8: 8; Port 9: 9
pins: 1, 2, 3, 4, 5, 6, 7, 8, 9
text: Цепь

## XS-10x-in
designator XS?
="Description"; Port 1: 1; Port 2: 2; Port 3: 3; Port 4: 4; Port 5: 5; Port 6: 6; Port 7: 7; Port 8: 8; Port 9: 9; Port 10: 10
pins: 1, 2, 3, 4, 5, 6, 7, 8, 9, 10
text: Цепь

## XS-11x-in
designator XS?
="Description"; Port 1: 1; Port 2: 2; Port 3: 3; Port 4: 4; Port 5: 5; Port 6: 6; Port 7: 7; Port 8: 8; Port 9: 9; Port 10: 10; Port 11: 11
pins: 1, 2, 3, 4, 5, 6, 7, 8, 9, 10, 11
text: Цепь

## XS-12x-in
designator XS?
="Description"; Port 1: 1; Port 2: 2; Port 3: 3; Port 4: 4; Port 5: 5; Port 6: 6; Port 7: 7; Port 8: 8; Port 9: 9; Port 10: 10; Port 11: 11; Port 12: 12
pins: 1, 2, 3, 4, 5, 6, 7, 8, 9, 10, 11, 12
text: Цепь

## XS-13x-in
designator XS?
="Description"; Port 1: 1; Port 2: 2; Port 3: 3; Port 4: 4; Port 5: 5; Port 6: 6; Port 7: 7; Port 8: 8; Port 9: 9; Port 10: 10; Port 11: 11; Port 12: 12; Port 13: 13
pins: 1, 2, 3, 4, 5, 6, 7, 8, 9, 10, 11, 12, 13
text: Цепь

## XS-14x-in
designator XS?
="Description"; Port 1: 1; Port 2: 2; Port 3: 3; Port 4: 4; Port 5: 5; Port 6: 6; Port 7: 7; Port 8: 8; Port 9: 9; Port 10: 10; Port 11: 11; Port 12: 12; Port 13: 13; Port 14: 14
pins: 1, 2, 3, 4, 5, 6, 7, 8, 9, 10, 11, 12, 13, 14
text: Цепь

## XS-15-Dsub-in
designator XS?
="Description"; Port 1: 1; Port 2: 2; Port 3: 3; Port 4: 4; Port 5: 5; Port 6: 6; Port 7: 7; Port 8: 8; Port 9: 9; Port 10: 10; Port 11: 11; Port 12: 12; Port 13: 13; Port 14: 14; Port 15: 15; Port 16: SH1; Port 17: SH2
pins: 1, 2, 3, 4, 5, 6, 7, 8, 9, 10, 11, 12, 13, 14, 15, SH1, SH2
text: Цепь; 16; 17

## XS-15x-in
designator XS?
="Description"; Port 1: 1; Port 2: 2; Port 3: 3; Port 4: 4; Port 5: 5; Port 6: 6; Port 7: 7; Port 8: 8; Port 9: 9; Port 10: 10; Port 11: 11; Port 12: 12; Port 13: 13; Port 14: 14; Port 15: 15
pins: 1, 2, 3, 4, 5, 6, 7, 8, 9, 10, 11, 12, 13, 14, 15
text: Цепь

## XS-16x-in
designator XS?
="Description"; Port 1: 1; Port 2: 2; Port 3: 3; Port 4: 4; Port 5: 5; Port 6: 6; Port 7: 7; Port 8: 8; Port 9: 9; Port 10: 10; Port 11: 11; Port 12: 12; Port 13: 13; Port 14: 14; Port 15: 15; Port 16: 16
pins: 1, 2, 3, 4, 5, 6, 7, 8, 9, 10, 11, 12, 13, 14, 15, 16
text: Цепь

## XS-17x-in
designator XS?
="Description"; Port 1: 1; Port 2: 2; Port 3: 3; Port 4: 4; Port 5: 5; Port 6: 6; Port 7: 7; Port 8: 8; Port 9: 9; Port 10: 10; Port 11: 11; Port 12: 12; Port 13: 13; Port 14: 14; Port 15: 15; Port 16: 16; Port 17: 17
pins: 1, 2, 3, 4, 5, 6, 7, 8, 9, 10, 11, 12, 13, 14, 15, 16, 17
text: Цепь

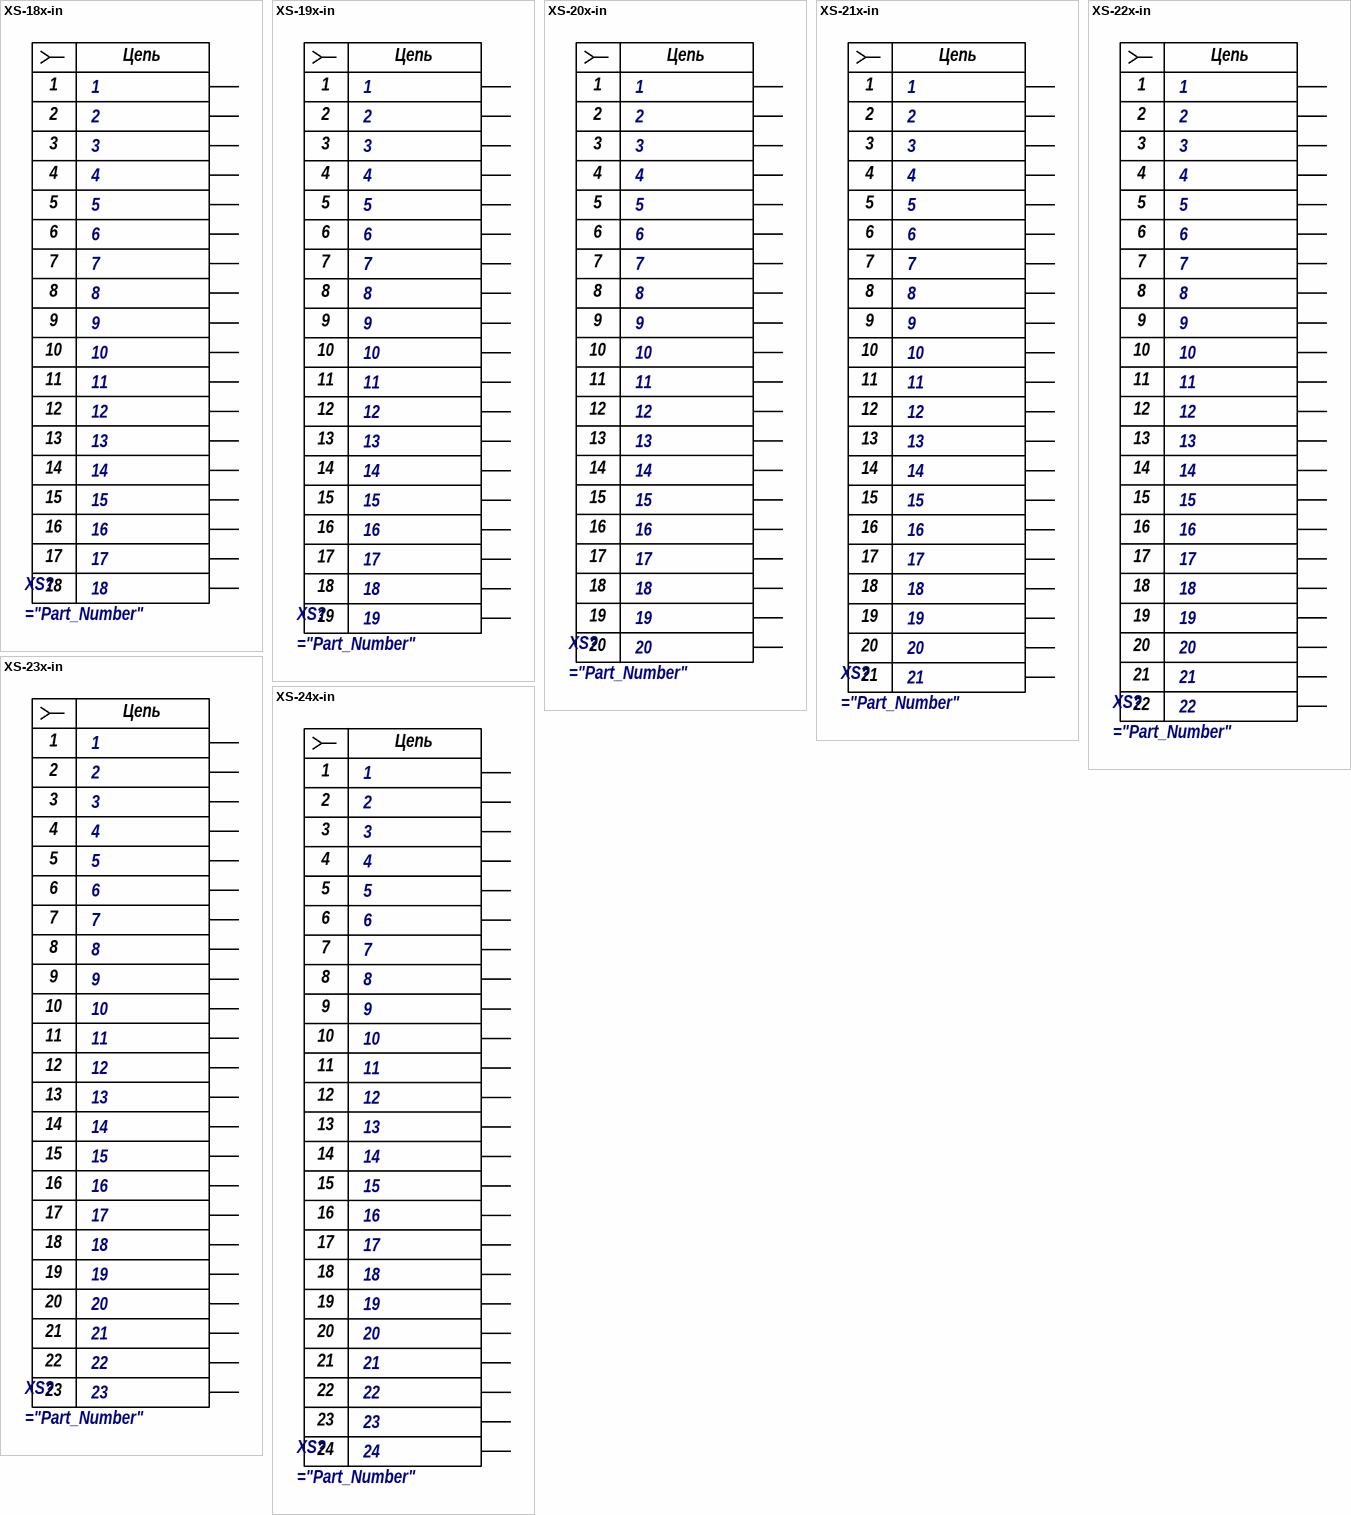
[diagram p7: symbols XS-18x-in to XS-24x-in]

## XS-18x-in
designator XS?
="Description"; Port 1: 1; Port 2: 2; Port 3: 3; Port 4: 4; Port 5: 5; Port 6: 6; Port 7: 7; Port 8: 8; Port 9: 9; Port 10: 10; Port 11: 11; Port 12: 12; Port 13: 13; Port 14: 14; Port 15: 15; Port 16: 16; Port 17: 17; Port 18: 18
pins: 1, 2, 3, 4, 5, 6, 7, 8, 9, 10, 11, 12, 13, 14, 15, 16, 17, 18
text: Цепь

## XS-19x-in
designator XS?
="Description"; Port 1: 1; Port 2: 2; Port 3: 3; Port 4: 4; Port 5: 5; Port 6: 6; Port 7: 7; Port 8: 8; Port 9: 9; Port 10: 10; Port 11: 11; Port 12: 12; Port 13: 13; Port 14: 14; Port 15: 15; Port 16: 16; Port 17: 17; Port 18: 18; Port 19: 19
pins: 1, 2, 3, 4, 5, 6, 7, 8, 9, 10, 11, 12, 13, 14, 15, 16, 17, 18, 19
text: Цепь

## XS-20x-in
designator XS?
="Description"; Port 1: 1; Port 2: 2; Port 3: 3; Port 4: 4; Port 5: 5; Port 6: 6; Port 7: 7; Port 8: 8; Port 9: 9; Port 10: 10; Port 11: 11; Port 12: 12; Port 13: 13; Port 14: 14; Port 15: 15; Port 16: 16; Port 17: 17; Port 18: 18; Port 19: 19; Port 20: 20
pins: 1, 2, 3, 4, 5, 6, 7, 8, 9, 10, 11, 12, 13, 14, 15, 16, 17, 18, 19, 20
text: Цепь

## XS-21x-in
designator XS?
="Description"; Port 1: 1; Port 2: 2; Port 3: 3; Port 4: 4; Port 5: 5; Port 6: 6; Port 7: 7; Port 8: 8; Port 9: 9; Port 10: 10; Port 11: 11; Port 12: 12; Port 13: 13; Port 14: 14; Port 15: 15; Port 16: 16; Port 17: 17; Port 18: 18; Port 19: 19; Port 20: 20; Port 21: 21
pins: 1, 2, 3, 4, 5, 6, 7, 8, 9, 10, 11, 12, 13, 14, 15, 16, 17, 18, 19, 20, 21
text: Цепь

## XS-22x-in
designator XS?
="Description"; Port 1: 1; Port 2: 2; Port 3: 3; Port 4: 4; Port 5: 5; Port 6: 6; Port 7: 7; Port 8: 8; Port 9: 9; Port 10: 10; Port 11: 11; Port 12: 12; Port 13: 13; Port 14: 14; Port 15: 15; Port 16: 16; Port 17: 17; Port 18: 18; Port 19: 19; Port 20: 20; Port 21: 21; Port 22: 22
pins: 1, 2, 3, 4, 5, 6, 7, 8, 9, 10, 11, 12, 13, 14, 15, 16, 17, 18, 19, 20, 21, 22
text: Цепь

## XS-23x-in
designator XS?
="Description"; Port 1: 1; Port 2: 2; Port 3: 3; Port 4: 4; Port 5: 5; Port 6: 6; Port 7: 7; Port 8: 8; Port 9: 9; Port 10: 10; Port 11: 11; Port 12: 12; Port 13: 13; Port 14: 14; Port 15: 15; Port 16: 16; Port 17: 17; Port 18: 18; Port 19: 19; Port 20: 20; Port 21: 21; Port 22: 22; Port 23: 23
pins: 1, 2, 3, 4, 5, 6, 7, 8, 9, 10, 11, 12, 13, 14, 15, 16, 17, 18, 19, 20, 21, 22, 23
text: Цепь

## XS-24x-in
designator XS?
="Description"; Port 1: 1; Port 2: 2; Port 3: 3; Port 4: 4; Port 5: 5; Port 6: 6; Port 7: 7; Port 8: 8; Port 9: 9; Port 10: 10; Port 11: 11; Port 12: 12; Port 13: 13; Port 14: 14; Port 15: 15; Port 16: 16; Port 17: 17; Port 18: 18; Port 19: 19; Port 20: 20; Port 21: 21; Port 22: 22; Port 23: 23; Port 24: 24
pins: 1, 2, 3, 4, 5, 6, 7, 8, 9, 10, 11, 12, 13, 14, 15, 16, 17, 18, 19, 20, 21, 22, 23, 24
text: Цепь

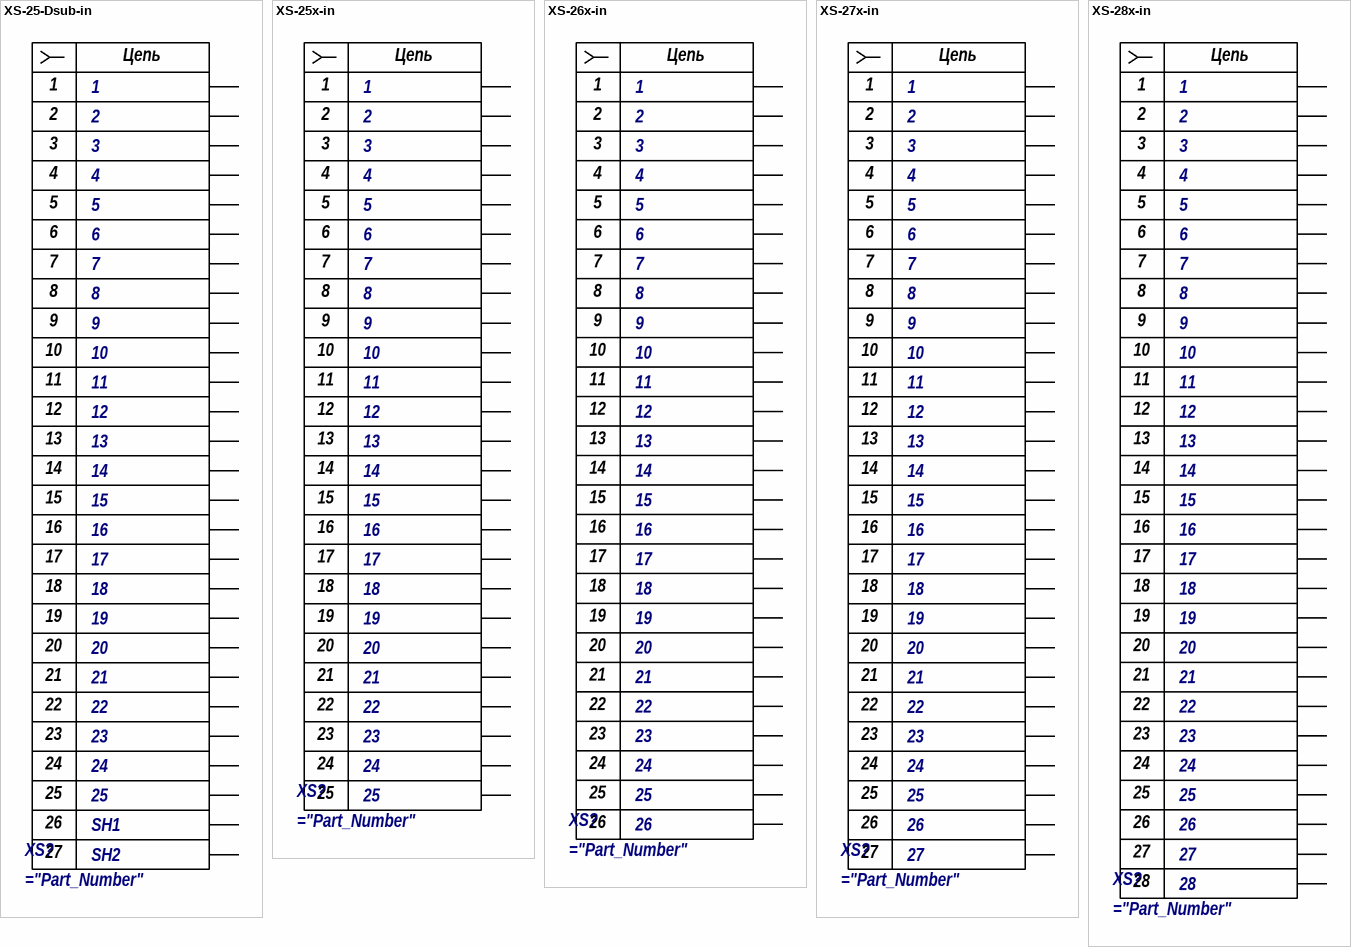
[diagram p8: symbols XS-25-Dsub-in to XS-28x-in]

## XS-25-Dsub-in
designator XS?
="Description"; Port 1: 1; Port 2: 2; Port 3: 3; Port 4: 4; Port 5: 5; Port 6: 6; Port 7: 7; Port 8: 8; Port 9: 9; Port 10: 10; Port 11: 11; Port 12: 12; Port 13: 13; Port 14: 14; Port 15: 15; Port 16: 16; Port 17: 17; Port 18: 18; Port 19: 19; Port 20: 20; Port 21: 21; Port 22: 22; Port 23: 23; Port 24: 24; Port 25: 25; Port 26: SH1; Port 27: SH2
pins: 1, 2, 3, 4, 5, 6, 7, 8, 9, 10, 11, 12, 13, 14, 15, 16, 17, 18, 19, 20, 21, 22, 23, 24, 25, SH1, SH2
text: Цепь; 26; 27

## XS-25x-in
designator XS?
="Description"; Port 1: 1; Port 2: 2; Port 3: 3; Port 4: 4; Port 5: 5; Port 6: 6; Port 7: 7; Port 8: 8; Port 9: 9; Port 10: 10; Port 11: 11; Port 12: 12; Port 13: 13; Port 14: 14; Port 15: 15; Port 16: 16; Port 17: 17; Port 18: 18; Port 19: 19; Port 20: 20; Port 21: 21; Port 22: 22; Port 23: 23; Port 24: 24; Port 25: 25
pins: 1, 2, 3, 4, 5, 6, 7, 8, 9, 10, 11, 12, 13, 14, 15, 16, 17, 18, 19, 20, 21, 22, 23, 24, 25
text: Цепь

## XS-26x-in
designator XS?
="Description"; Port 1: 1; Port 2: 2; Port 3: 3; Port 4: 4; Port 5: 5; Port 6: 6; Port 7: 7; Port 8: 8; Port 9: 9; Port 10: 10; Port 11: 11; Port 12: 12; Port 13: 13; Port 14: 14; Port 15: 15; Port 16: 16; Port 17: 17; Port 18: 18; Port 19: 19; Port 20: 20; Port 21: 21; Port 22: 22; Port 23: 23; Port 24: 24; Port 25: 25; Port 26: 26
pins: 1, 2, 3, 4, 5, 6, 7, 8, 9, 10, 11, 12, 13, 14, 15, 16, 17, 18, 19, 20, 21, 22, 23, 24, 25, 26
text: Цепь

## XS-27x-in
designator XS?
="Description"; Port 1: 1; Port 2: 2; Port 3: 3; Port 4: 4; Port 5: 5; Port 6: 6; Port 7: 7; Port 8: 8; Port 9: 9; Port 10: 10; Port 11: 11; Port 12: 12; Port 13: 13; Port 14: 14; Port 15: 15; Port 16: 16; Port 17: 17; Port 18: 18; Port 19: 19; Port 20: 20; Port 21: 21; Port 22: 22; Port 23: 23; Port 24: 24; Port 25: 25; Port 26: 26; Port 27: 27
pins: 1, 2, 3, 4, 5, 6, 7, 8, 9, 10, 11, 12, 13, 14, 15, 16, 17, 18, 19, 20, 21, 22, 23, 24, 25, 26, 27
text: Цепь

## XS-28x-in
designator XS?
="Description"; Port 1: 1; Port 2: 2; Port 3: 3; Port 4: 4; Port 5: 5; Port 6: 6; Port 7: 7; Port 8: 8; Port 9: 9; Port 10: 10; Port 11: 11; Port 12: 12; Port 13: 13; Port 14: 14; Port 15: 15; Port 16: 16; Port 17: 17; Port 18: 18; Port 19: 19; Port 20: 20; Port 21: 21; Port 22: 22; Port 23: 23; Port 24: 24; Port 25: 25; Port 26: 26; Port 27: 27; Port 28: 28
pins: 1, 2, 3, 4, 5, 6, 7, 8, 9, 10, 11, 12, 13, 14, 15, 16, 17, 18, 19, 20, 21, 22, 23, 24, 25, 26, 27, 28
text: Цепь

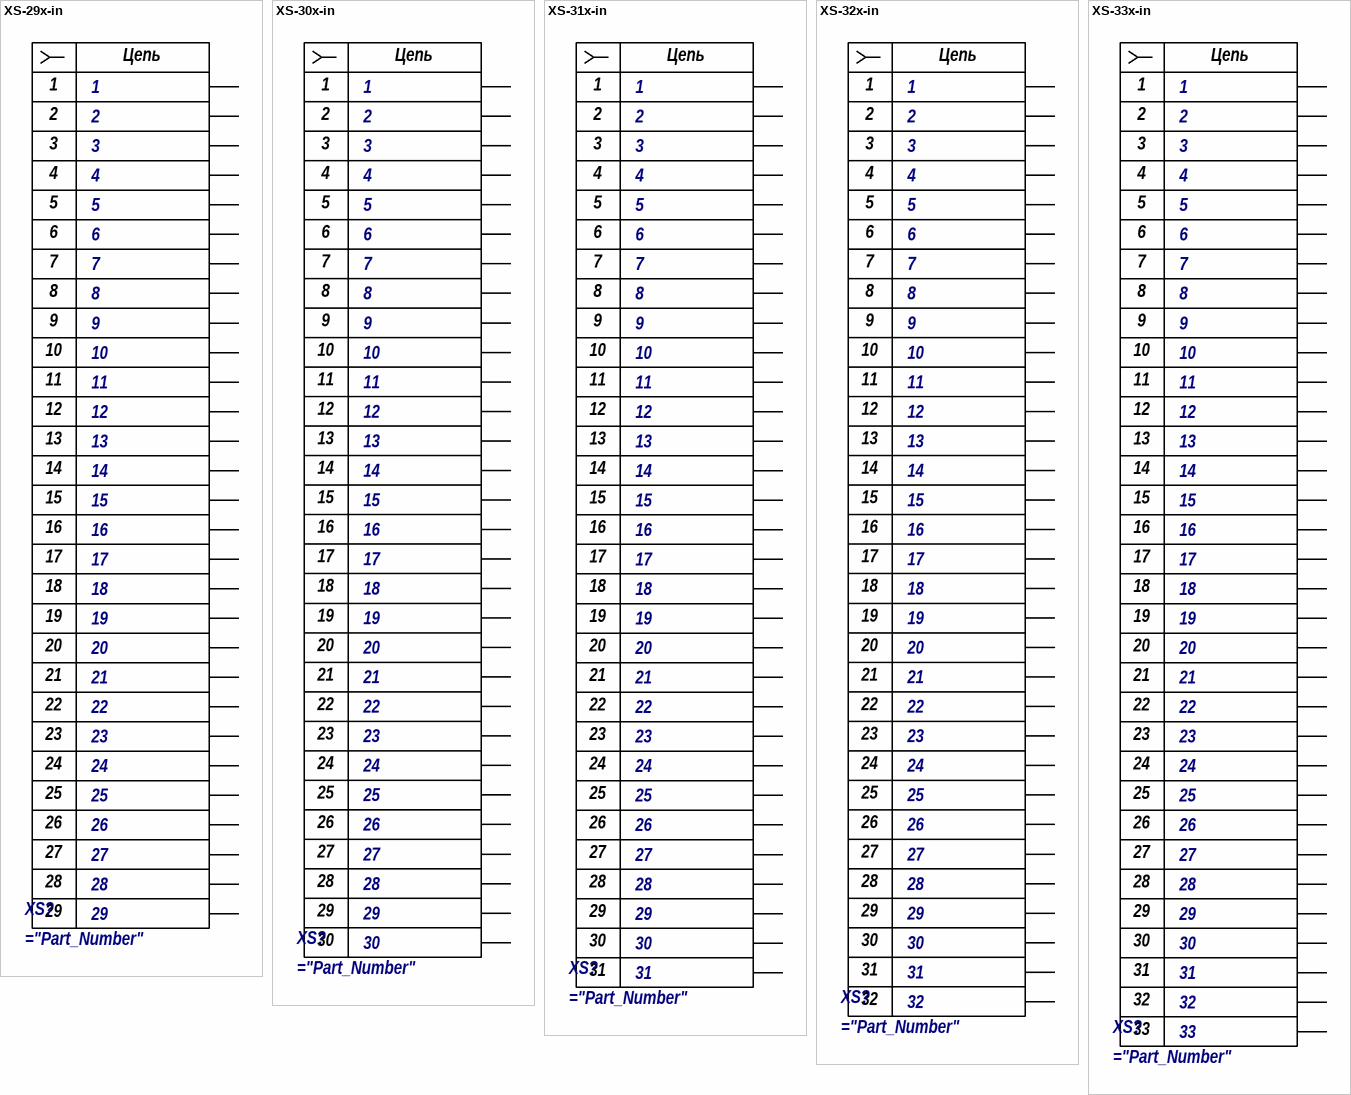
[diagram p9: symbols XS-29x-in to XS-33x-in]

## XS-29x-in
designator XS?
="Description"; Port 1: 1; Port 2: 2; Port 3: 3; Port 4: 4; Port 5: 5; Port 6: 6; Port 7: 7; Port 8: 8; Port 9: 9; Port 10: 10; Port 11: 11; Port 12: 12; Port 13: 13; Port 14: 14; Port 15: 15; Port 16: 16; Port 17: 17; Port 18: 18; Port 19: 19; Port 20: 20; Port 21: 21; Port 22: 22; Port 23: 23; Port 24: 24; Port 25: 25; Port 26: 26; Port 27: 27; Port 28: 28; Port 29: 29
pins: 1, 2, 3, 4, 5, 6, 7, 8, 9, 10, 11, 12, 13, 14, 15, 16, 17, 18, 19, 20, 21, 22, 23, 24, 25, 26, 27, 28, 29
text: Цепь

## XS-30x-in
designator XS?
="Description"; Port 1: 1; Port 2: 2; Port 3: 3; Port 4: 4; Port 5: 5; Port 6: 6; Port 7: 7; Port 8: 8; Port 9: 9; Port 10: 10; Port 11: 11; Port 12: 12; Port 13: 13; Port 14: 14; Port 15: 15; Port 16: 16; Port 17: 17; Port 18: 18; Port 19: 19; Port 20: 20; Port 21: 21; Port 22: 22; Port 23: 23; Port 24: 24; Port 25: 25; Port 26: 26; Port 27: 27; Port 28: 28; Port 29: 29; Port 30: 30
pins: 1, 2, 3, 4, 5, 6, 7, 8, 9, 10, 11, 12, 13, 14, 15, 16, 17, 18, 19, 20, 21, 22, 23, 24, 25, 26, 27, 28, 29, 30
text: Цепь

## XS-31x-in
designator XS?
="Description"; Port 1: 1; Port 2: 2; Port 3: 3; Port 4: 4; Port 5: 5; Port 6: 6; Port 7: 7; Port 8: 8; Port 9: 9; Port 10: 10; Port 11: 11; Port 12: 12; Port 13: 13; Port 14: 14; Port 15: 15; Port 16: 16; Port 17: 17; Port 18: 18; Port 19: 19; Port 20: 20; Port 21: 21; Port 22: 22; Port 23: 23; Port 24: 24; Port 25: 25; Port 26: 26; Port 27: 27; Port 28: 28; Port 29: 29; Port 30: 30; Port 31: 31
pins: 1, 2, 3, 4, 5, 6, 7, 8, 9, 10, 11, 12, 13, 14, 15, 16, 17, 18, 19, 20, 21, 22, 23, 24, 25, 26, 27, 28, 29, 30, 31
text: Цепь

## XS-32x-in
designator XS?
="Description"; Port 1: 1; Port 2: 2; Port 3: 3; Port 4: 4; Port 5: 5; Port 6: 6; Port 7: 7; Port 8: 8; Port 9: 9; Port 10: 10; Port 11: 11; Port 12: 12; Port 13: 13; Port 14: 14; Port 15: 15; Port 16: 16; Port 17: 17; Port 18: 18; Port 19: 19; Port 20: 20; Port 21: 21; Port 22: 22; Port 23: 23; Port 24: 24; Port 25: 25; Port 26: 26; Port 27: 27; Port 28: 28; Port 29: 29; Port 30: 30; Port 31: 31; Port 32: 32
pins: 1, 2, 3, 4, 5, 6, 7, 8, 9, 10, 11, 12, 13, 14, 15, 16, 17, 18, 19, 20, 21, 22, 23, 24, 25, 26, 27, 28, 29, 30, 31, 32
text: Цепь

## XS-33x-in
designator XS?
="Description"; Port 1: 1; Port 2: 2; Port 3: 3; Port 4: 4; Port 5: 5; Port 6: 6; Port 7: 7; Port 8: 8; Port 9: 9; Port 10: 10; Port 11: 11; Port 12: 12; Port 13: 13; Port 14: 14; Port 15: 15; Port 16: 16; Port 17: 17; Port 18: 18; Port 19: 19; Port 20: 20; Port 21: 21; Port 22: 22; Port 23: 23; Port 24: 24; Port 25: 25; Port 26: 26; Port 27: 27; Port 28: 28; Port 29: 29; Port 30: 30; Port 31: 31; Port 32: 32; Port 33: 33
pins: 1, 2, 3, 4, 5, 6, 7, 8, 9, 10, 11, 12, 13, 14, 15, 16, 17, 18, 19, 20, 21, 22, 23, 24, 25, 26, 27, 28, 29, 30, 31, 32, 33
text: Цепь

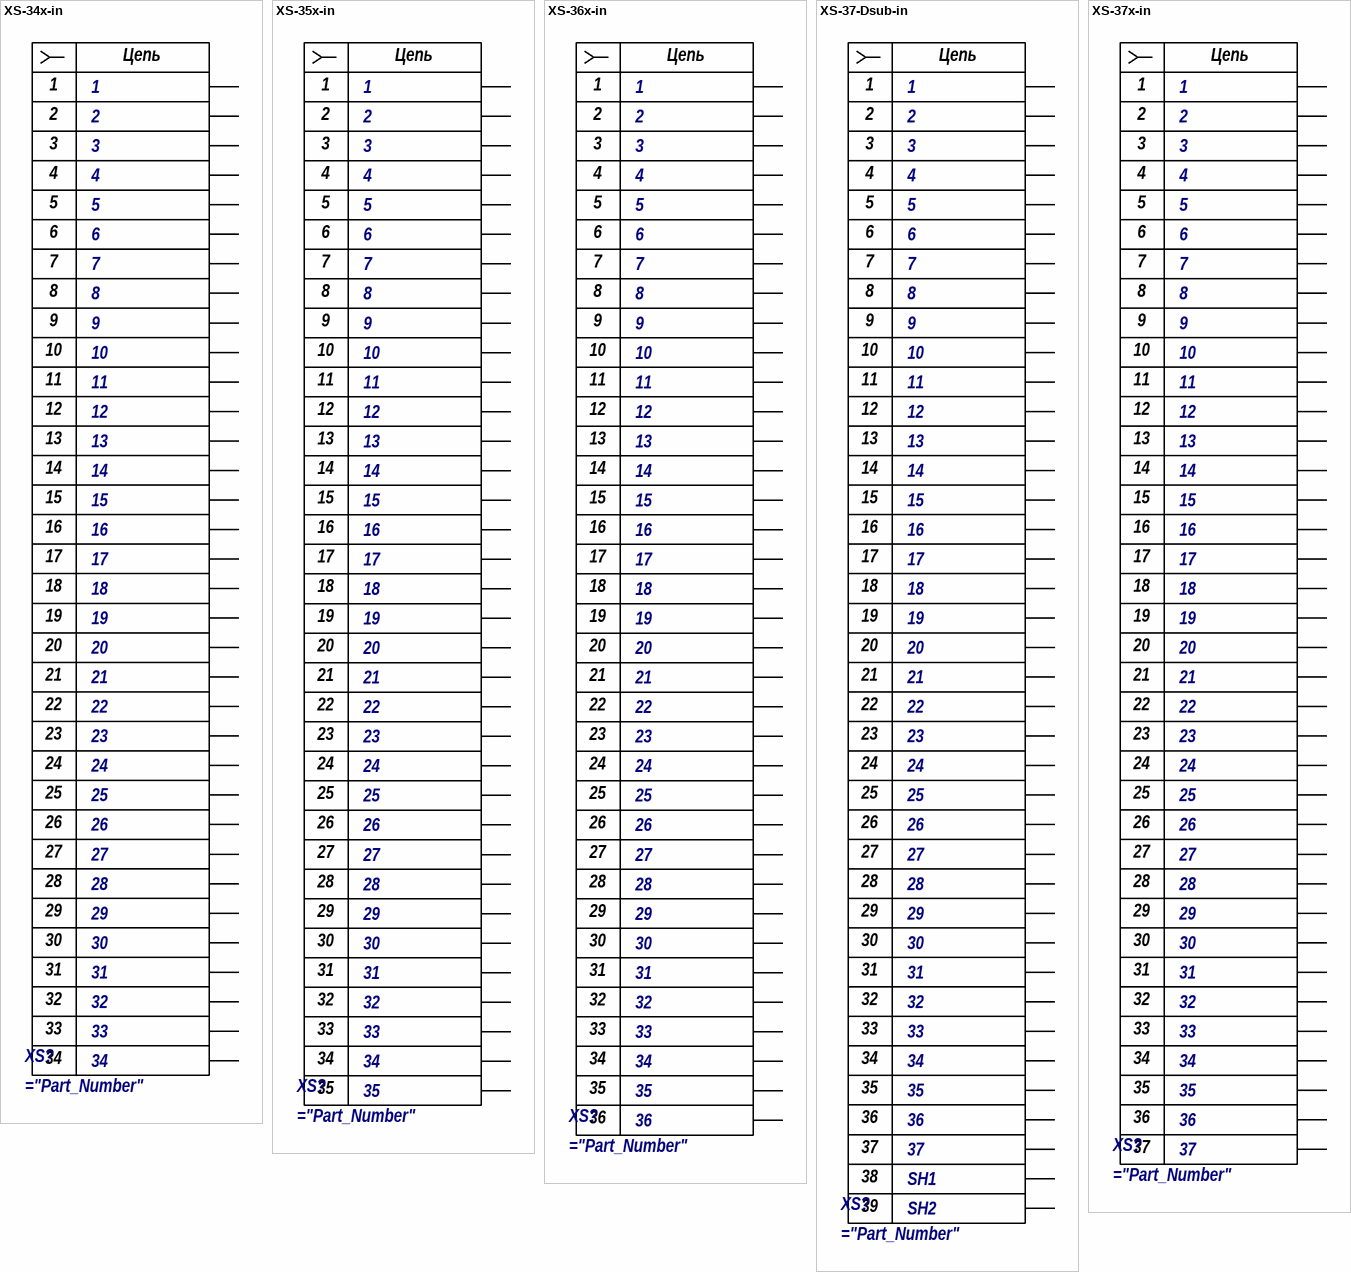
[diagram p10: symbols XS-34x-in to XS-37x-in]

## XS-34x-in
designator XS?
="Description"; Port 1: 1; Port 2: 2; Port 3: 3; Port 4: 4; Port 5: 5; Port 6: 6; Port 7: 7; Port 8: 8; Port 9: 9; Port 10: 10; Port 11: 11; Port 12: 12; Port 13: 13; Port 14: 14; Port 15: 15; Port 16: 16; Port 17: 17; Port 18: 18; Port 19: 19; Port 20: 20; Port 21: 21; Port 22: 22; Port 23: 23; Port 24: 24; Port 25: 25; Port 26: 26; Port 27: 27; Port 28: 28; Port 29: 29; Port 30: 30; Port 31: 31; Port 32: 32; Port 33: 33; Port 34: 34
pins: 1, 2, 3, 4, 5, 6, 7, 8, 9, 10, 11, 12, 13, 14, 15, 16, 17, 18, 19, 20, 21, 22, 23, 24, 25, 26, 27, 28, 29, 30, 31, 32, 33, 34
text: Цепь

## XS-35x-in
designator XS?
="Description"; Port 1: 1; Port 2: 2; Port 3: 3; Port 4: 4; Port 5: 5; Port 6: 6; Port 7: 7; Port 8: 8; Port 9: 9; Port 10: 10; Port 11: 11; Port 12: 12; Port 13: 13; Port 14: 14; Port 15: 15; Port 16: 16; Port 17: 17; Port 18: 18; Port 19: 19; Port 20: 20; Port 21: 21; Port 22: 22; Port 23: 23; Port 24: 24; Port 25: 25; Port 26: 26; Port 27: 27; Port 28: 28; Port 29: 29; Port 30: 30; Port 31: 31; Port 32: 32; Port 33: 33; Port 34: 34; Port 35: 35
pins: 1, 2, 3, 4, 5, 6, 7, 8, 9, 10, 11, 12, 13, 14, 15, 16, 17, 18, 19, 20, 21, 22, 23, 24, 25, 26, 27, 28, 29, 30, 31, 32, 33, 34, 35
text: Цепь

## XS-36x-in
designator XS?
="Description"; Port 1: 1; Port 2: 2; Port 3: 3; Port 4: 4; Port 5: 5; Port 6: 6; Port 7: 7; Port 8: 8; Port 9: 9; Port 10: 10; Port 11: 11; Port 12: 12; Port 13: 13; Port 14: 14; Port 15: 15; Port 16: 16; Port 17: 17; Port 18: 18; Port 19: 19; Port 20: 20; Port 21: 21; Port 22: 22; Port 23: 23; Port 24: 24; Port 25: 25; Port 26: 26; Port 27: 27; Port 28: 28; Port 29: 29; Port 30: 30; Port 31: 31; Port 32: 32; Port 33: 33; Port 34: 34; Port 35: 35; Port 36: 36
pins: 1, 2, 3, 4, 5, 6, 7, 8, 9, 10, 11, 12, 13, 14, 15, 16, 17, 18, 19, 20, 21, 22, 23, 24, 25, 26, 27, 28, 29, 30, 31, 32, 33, 34, 35, 36
text: Цепь

## XS-37-Dsub-in
designator XS?
="Description"; Port 1: 1; Port 2: 2; Port 3: 3; Port 4: 4; Port 5: 5; Port 6: 6; Port 7: 7; Port 8: 8; Port 9: 9; Port 10: 10; Port 11: 11; Port 12: 12; Port 13: 13; Port 14: 14; Port 15: 15; Port 16: 16; Port 17: 17; Port 18: 18; Port 19: 19; Port 20: 20; Port 21: 21; Port 22: 22; Port 23: 23; Port 24: 24; Port 25: 25; Port 26: 26; Port 27: 27; Port 28: 28; Port 29: 29; Port 30: 30; Port 31: 31; Port 32: 32; Port 33: 33; Port 34: 34; Port 35: 35; Port 36: 36; Port 37: 37; Port 38: SH1; Port 39: SH2
pins: 1, 2, 3, 4, 5, 6, 7, 8, 9, 10, 11, 12, 13, 14, 15, 16, 17, 18, 19, 20, 21, 22, 23, 24, 25, 26, 27, 28, 29, 30, 31, 32, 33, 34, 35, 36, 37, SH1, SH2
text: Цепь; 38; 39

## XS-37x-in
designator XS?
="Description"; Port 1: 1; Port 2: 2; Port 3: 3; Port 4: 4; Port 5: 5; Port 6: 6; Port 7: 7; Port 8: 8; Port 9: 9; Port 10: 10; Port 11: 11; Port 12: 12; Port 13: 13; Port 14: 14; Port 15: 15; Port 16: 16; Port 17: 17; Port 18: 18; Port 19: 19; Port 20: 20; Port 21: 21; Port 22: 22; Port 23: 23; Port 24: 24; Port 25: 25; Port 26: 26; Port 27: 27; Port 28: 28; Port 29: 29; Port 30: 30; Port 31: 31; Port 32: 32; Port 33: 33; Port 34: 34; Port 35: 35; Port 36: 36; Port 37: 37
pins: 1, 2, 3, 4, 5, 6, 7, 8, 9, 10, 11, 12, 13, 14, 15, 16, 17, 18, 19, 20, 21, 22, 23, 24, 25, 26, 27, 28, 29, 30, 31, 32, 33, 34, 35, 36, 37
text: Цепь

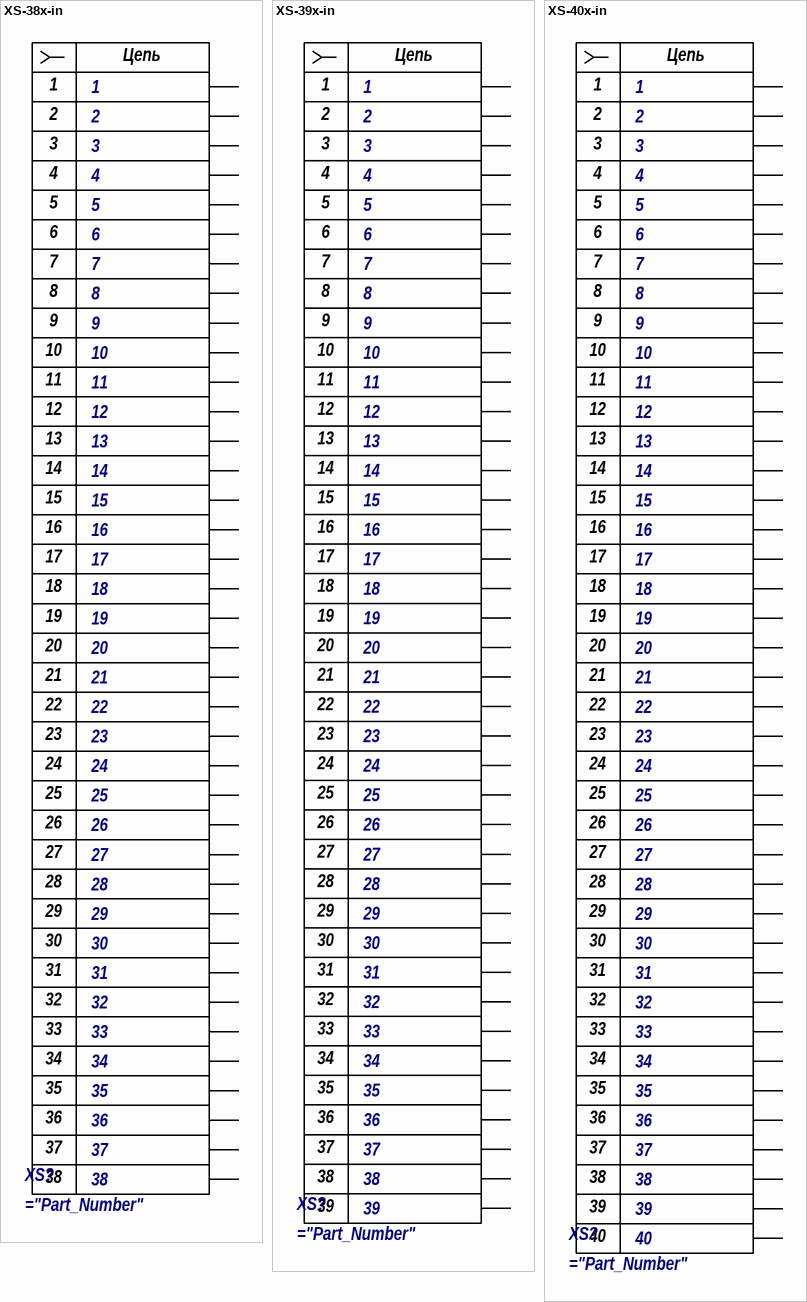
[diagram p11: symbols XS-38x-in to XS-40x-in]

## XS-38x-in
designator XS?
="Description"; Port 1: 1; Port 2: 2; Port 3: 3; Port 4: 4; Port 5: 5; Port 6: 6; Port 7: 7; Port 8: 8; Port 9: 9; Port 10: 10; Port 11: 11; Port 12: 12; Port 13: 13; Port 14: 14; Port 15: 15; Port 16: 16; Port 17: 17; Port 18: 18; Port 19: 19; Port 20: 20; Port 21: 21; Port 22: 22; Port 23: 23; Port 24: 24; Port 25: 25; Port 26: 26; Port 27: 27; Port 28: 28; Port 29: 29; Port 30: 30; Port 31: 31; Port 32: 32; Port 33: 33; Port 34: 34; Port 35: 35; Port 36: 36; Port 37: 37; Port 38: 38
pins: 1, 2, 3, 4, 5, 6, 7, 8, 9, 10, 11, 12, 13, 14, 15, 16, 17, 18, 19, 20, 21, 22, 23, 24, 25, 26, 27, 28, 29, 30, 31, 32, 33, 34, 35, 36, 37, 38
text: Цепь

## XS-39x-in
designator XS?
="Description"; Port 1: 1; Port 2: 2; Port 3: 3; Port 4: 4; Port 5: 5; Port 6: 6; Port 7: 7; Port 8: 8; Port 9: 9; Port 10: 10; Port 11: 11; Port 12: 12; Port 13: 13; Port 14: 14; Port 15: 15; Port 16: 16; Port 17: 17; Port 18: 18; Port 19: 19; Port 20: 20; Port 21: 21; Port 22: 22; Port 23: 23; Port 24: 24; Port 25: 25; Port 26: 26; Port 27: 27; Port 28: 28; Port 29: 29; Port 30: 30; Port 31: 31; Port 32: 32; Port 33: 33; Port 34: 34; Port 35: 35; Port 36: 36; Port 37: 37; Port 38: 38; Port 39: 39
pins: 1, 2, 3, 4, 5, 6, 7, 8, 9, 10, 11, 12, 13, 14, 15, 16, 17, 18, 19, 20, 21, 22, 23, 24, 25, 26, 27, 28, 29, 30, 31, 32, 33, 34, 35, 36, 37, 38, 39
text: Цепь

## XS-40x-in
designator XS?
="Description"; Port 1: 1; Port 2: 2; Port 3: 3; Port 4: 4; Port 5: 5; Port 6: 6; Port 7: 7; Port 8: 8; Port 9: 9; Port 10: 10; Port 11: 11; Port 12: 12; Port 13: 13; Port 14: 14; Port 15: 15; Port 16: 16; Port 17: 17; Port 18: 18; Port 19: 19; Port 20: 20; Port 21: 21; Port 22: 22; Port 23: 23; Port 24: 24; Port 25: 25; Port 26: 26; Port 27: 27; Port 28: 28; Port 29: 29; Port 30: 30; Port 31: 31; Port 32: 32; Port 33: 33; Port 34: 34; Port 35: 35; Port 36: 36; Port 37: 37; Port 38: 38; Port 39: 39; Port 40: 40
pins: 1, 2, 3, 4, 5, 6, 7, 8, 9, 10, 11, 12, 13, 14, 15, 16, 17, 18, 19, 20, 21, 22, 23, 24, 25, 26, 27, 28, 29, 30, 31, 32, 33, 34, 35, 36, 37, 38, 39, 40
text: Цепь